# Altium schematic symbol library dungvh03-CERN_Connectors.SchLib: 576 symbols (part 3 of 8)
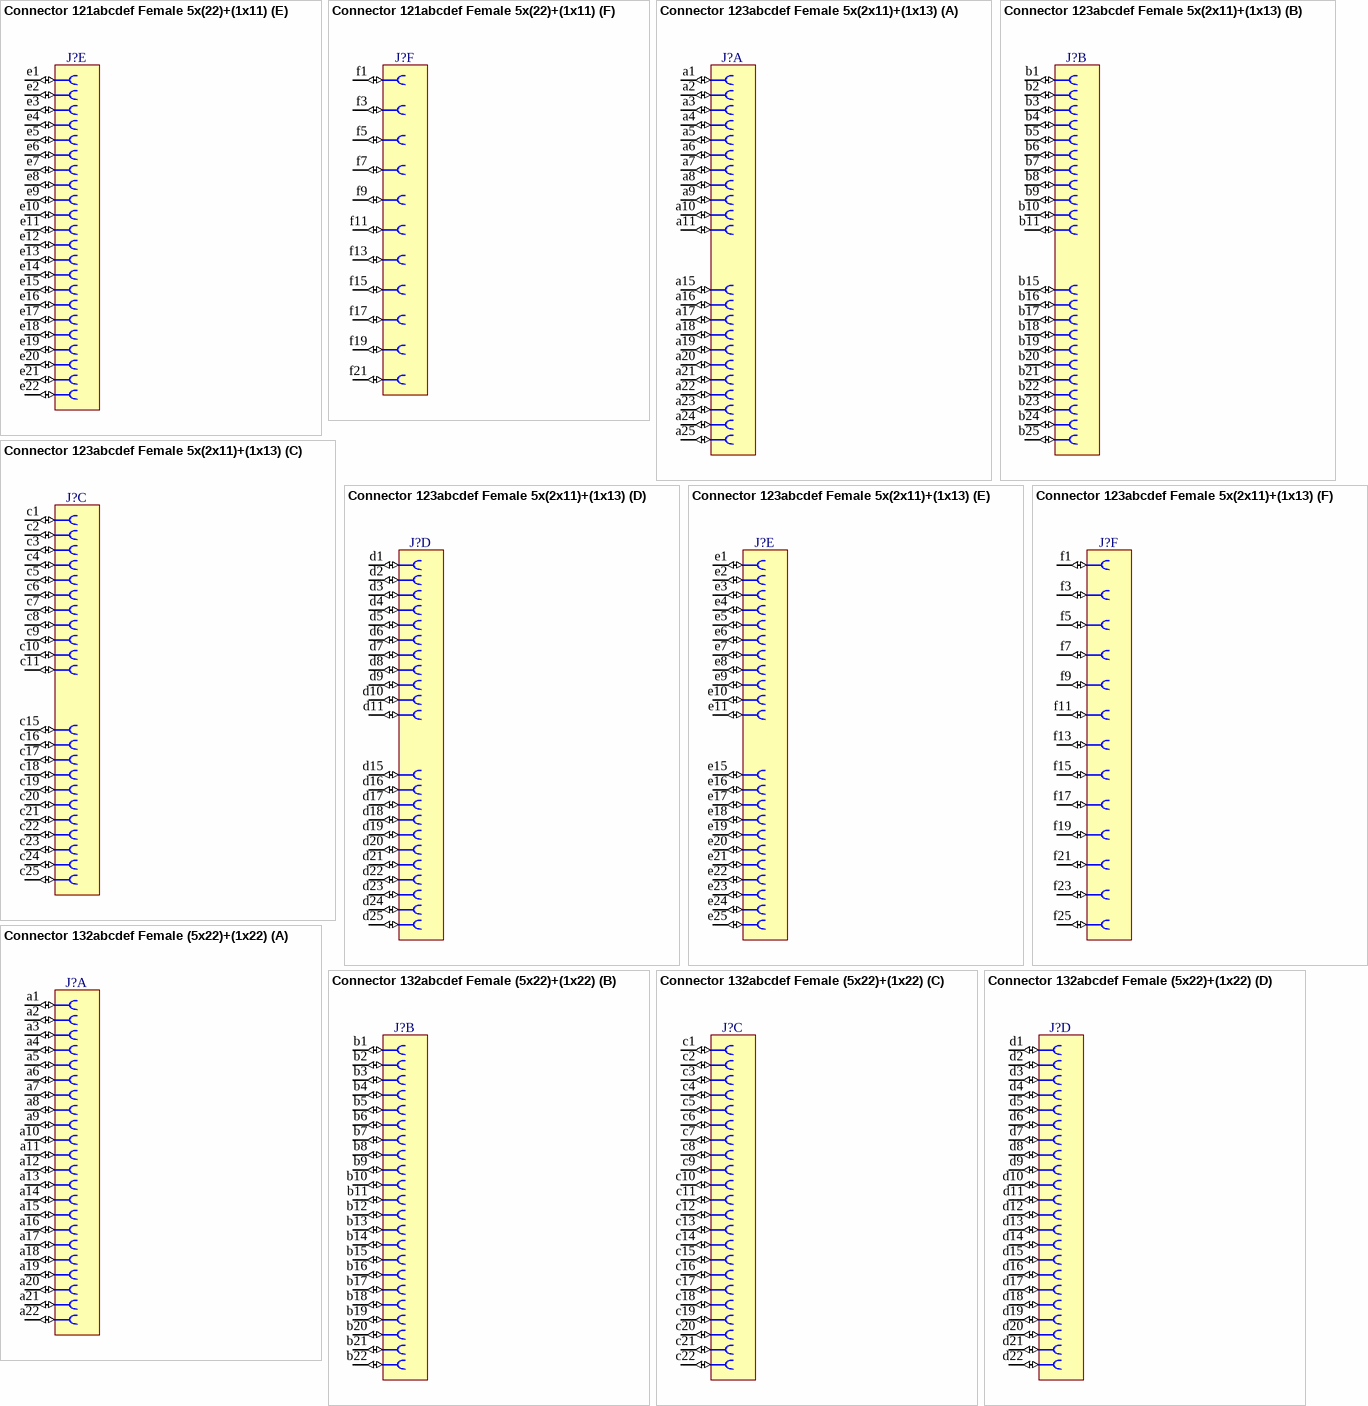
[diagram p77: symbols Connector 121abcdef Female 5x(22)+(1x11) to Connector 132abcdef Female (5x22)+(1x22)]

## Connector 121abcdef Female 5x(22)+(1x11)
designator J?
Female Connector, 121 (110+11) Contacts, 5 Rows (abcde) of 22 Contacts + 1 Row (f) of 11 Contacts
part A pins: a1 (io), a2 (io), a3 (io), a4 (io), a5 (io), a6 (io), a7 (io), a8 (io), a9 (io), a10 (io), a11 (io), a12 (io), a13 (io), a14 (io), a15 (io), a16 (io), a17 (io), a18 (io), a19 (io), a20 (io), a21 (io), a22 (io)
part B pins: b1 (io), b2 (io), b3 (io), b4 (io), b5 (io), b6 (io), b7 (io), b8 (io), b9 (io), b10 (io), b11 (io), b12 (io), b13 (io), b14 (io), b15 (io), b16 (io), b17 (io), b18 (io), b19 (io), b20 (io), b21 (io), b22 (io)
part C pins: c1 (io), c2 (io), c3 (io), c4 (io), c5 (io), c6 (io), c7 (io), c8 (io), c9 (io), c10 (io), c11 (io), c12 (io), c13 (io), c14 (io), c15 (io), c16 (io), c17 (io), c18 (io), c19 (io), c20 (io), c21 (io), c22 (io)
part D pins: d1 (io), d2 (io), d3 (io), d4 (io), d5 (io), d6 (io), d7 (io), d8 (io), d9 (io), d10 (io), d11 (io), d12 (io), d13 (io), d14 (io), d15 (io), d16 (io), d17 (io), d18 (io), d19 (io), d20 (io), d21 (io), d22 (io)
part E pins: e1 (io), e2 (io), e3 (io), e4 (io), e5 (io), e6 (io), e7 (io), e8 (io), e9 (io), e10 (io), e11 (io), e12 (io), e13 (io), e14 (io), e15 (io), e16 (io), e17 (io), e18 (io), e19 (io), e20 (io), e21 (io), e22 (io)
part F pins: f1 (io), f3 (io), f5 (io), f7 (io), f9 (io), f11 (io), f13 (io), f15 (io), f17 (io), f19 (io), f21 (io)

## Connector 123abcdef Female 5x(2x11)+(1x13)
designator J?
Female Connector, 123 (110+13) Contacts Female, 5 Rows (abcde) of 2x11 Contacts + 1 Row (f) of 13 Contacts
part A pins: a1 (io), a2 (io), a3 (io), a4 (io), a5 (io), a6 (io), a7 (io), a8 (io), a9 (io), a10 (io), a11 (io), a15 (io), a16 (io), a17 (io), a18 (io), a19 (io), a20 (io), a21 (io), a22 (io), a23 (io), a24 (io), a25 (io)
part B pins: b1 (io), b2 (io), b3 (io), b4 (io), b5 (io), b6 (io), b7 (io), b8 (io), b9 (io), b10 (io), b11 (io), b15 (io), b16 (io), b17 (io), b18 (io), b19 (io), b20 (io), b21 (io), b22 (io), b23 (io), b24 (io), b25 (io)
part C pins: c1 (io), c2 (io), c3 (io), c4 (io), c5 (io), c6 (io), c7 (io), c8 (io), c9 (io), c10 (io), c11 (io), c15 (io), c16 (io), c17 (io), c18 (io), c19 (io), c20 (io), c21 (io), c22 (io), c23 (io), c24 (io), c25 (io)
part D pins: d1 (io), d2 (io), d3 (io), d4 (io), d5 (io), d6 (io), d7 (io), d8 (io), d9 (io), d10 (io), d11 (io), d15 (io), d16 (io), d17 (io), d18 (io), d19 (io), d20 (io), d21 (io), d22 (io), d23 (io), d24 (io), d25 (io)
part E pins: e1 (io), e2 (io), e3 (io), e4 (io), e5 (io), e6 (io), e7 (io), e8 (io), e9 (io), e10 (io), e11 (io), e15 (io), e16 (io), e17 (io), e18 (io), e19 (io), e20 (io), e21 (io), e22 (io), e23 (io), e24 (io), e25 (io)
part F pins: f1 (io), f3 (io), f5 (io), f7 (io), f9 (io), f11 (io), f13 (io), f15 (io), f17 (io), f19 (io), f21 (io), f23 (io), f25 (io)

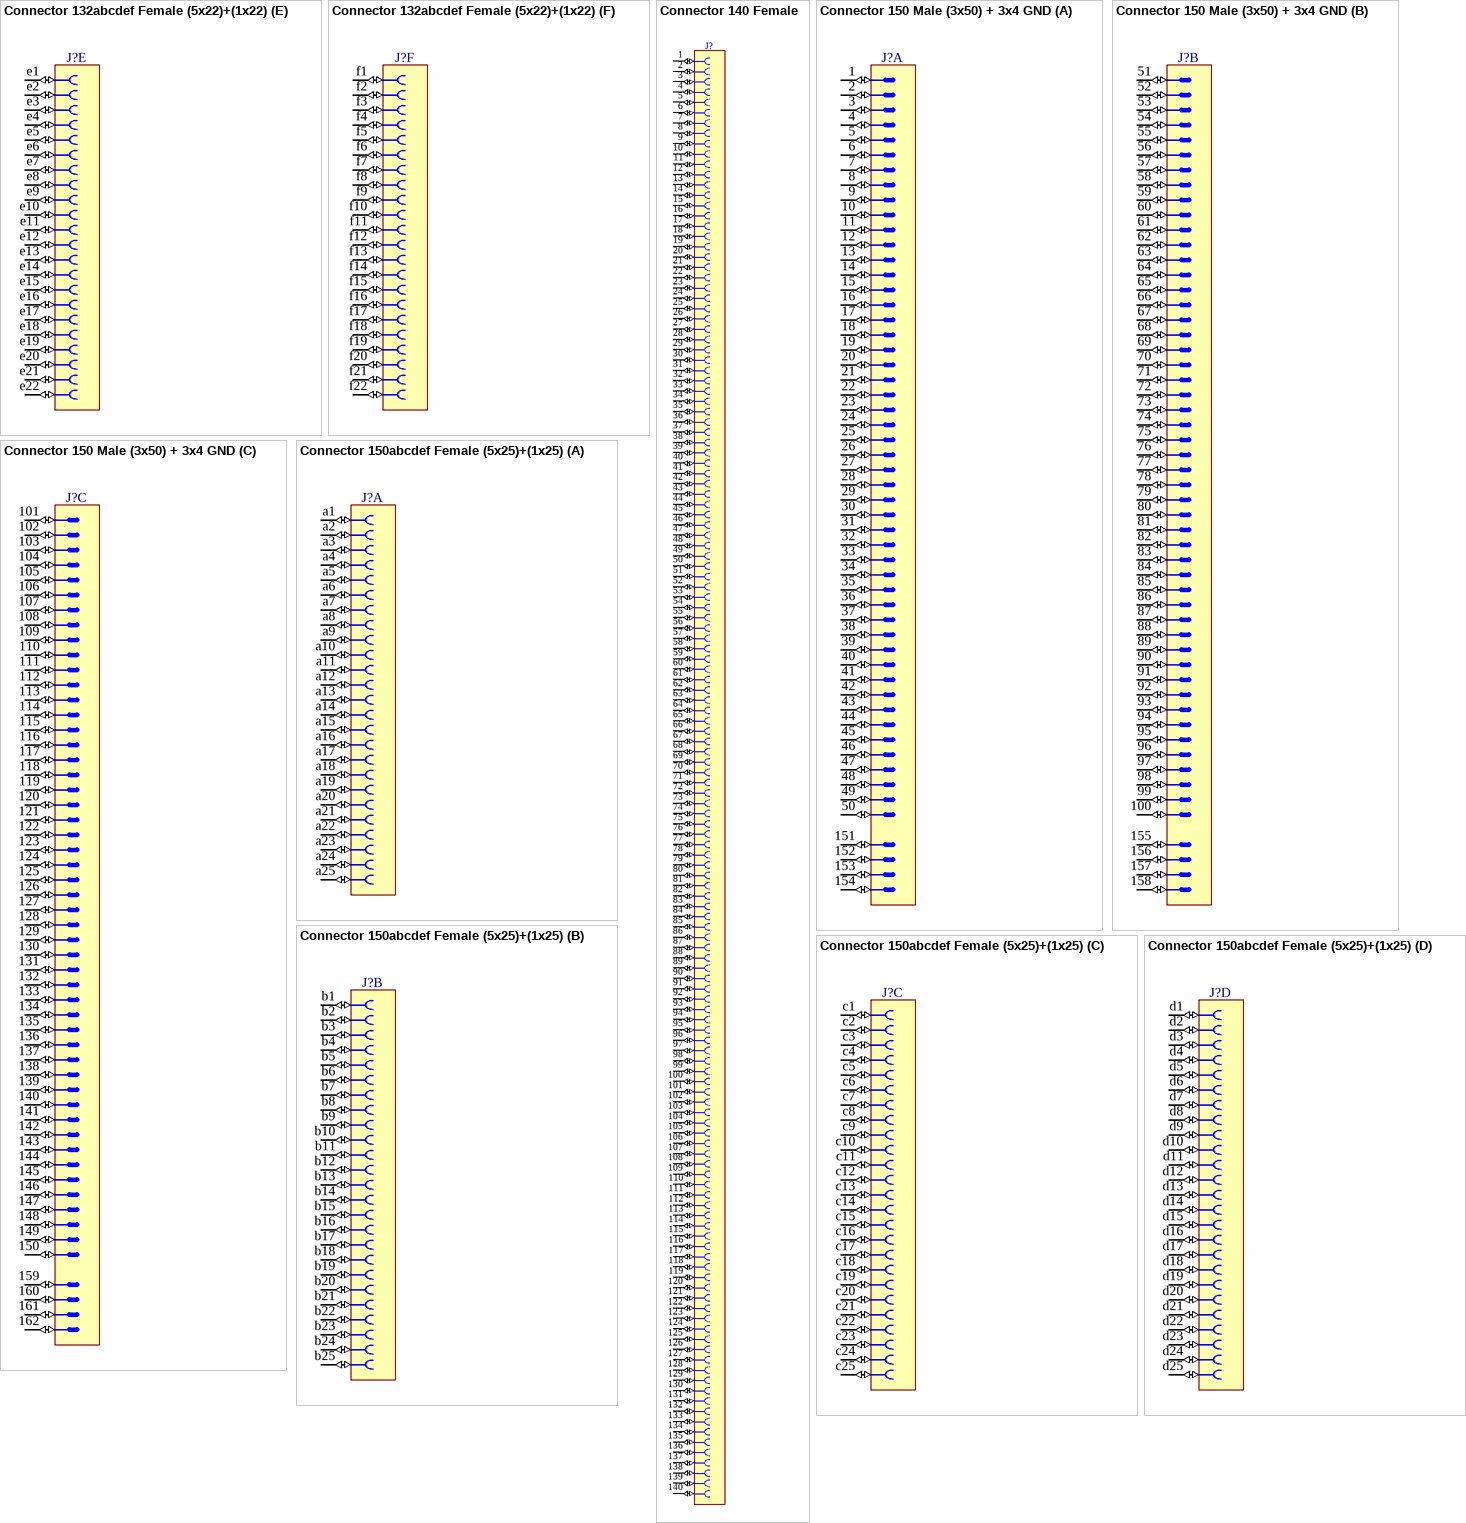
[diagram p20: symbols Connector 132abcdef Female (5x22)+(1x22) to Connector 150abcdef Female (5x25)+(1x25)]

## Connector 132abcdef Female (5x22)+(1x22)
designator J?
Female Connector, 132 (110+22) Contacts, 5 Rows (abcde) of 22 Contacts + 1 Row (f) of 22 Contacts
part A pins: a1 (io), a2 (io), a3 (io), a4 (io), a5 (io), a6 (io), a7 (io), a8 (io), a9 (io), a10 (io), a11 (io), a12 (io), a13 (io), a14 (io), a15 (io), a16 (io), a17 (io), a18 (io), a19 (io), a20 (io), a21 (io), a22 (io)
part B pins: b1 (io), b2 (io), b3 (io), b4 (io), b5 (io), b6 (io), b7 (io), b8 (io), b9 (io), b10 (io), b11 (io), b12 (io), b13 (io), b14 (io), b15 (io), b16 (io), b17 (io), b18 (io), b19 (io), b20 (io), b21 (io), b22 (io)
part C pins: c1 (io), c2 (io), c3 (io), c4 (io), c5 (io), c6 (io), c7 (io), c8 (io), c9 (io), c10 (io), c11 (io), c12 (io), c13 (io), c14 (io), c15 (io), c16 (io), c17 (io), c18 (io), c19 (io), c20 (io), c21 (io), c22 (io)
part D pins: d1 (io), d2 (io), d3 (io), d4 (io), d5 (io), d6 (io), d7 (io), d8 (io), d9 (io), d10 (io), d11 (io), d12 (io), d13 (io), d14 (io), d15 (io), d16 (io), d17 (io), d18 (io), d19 (io), d20 (io), d21 (io), d22 (io)
part E pins: e1 (io), e2 (io), e3 (io), e4 (io), e5 (io), e6 (io), e7 (io), e8 (io), e9 (io), e10 (io), e11 (io), e12 (io), e13 (io), e14 (io), e15 (io), e16 (io), e17 (io), e18 (io), e19 (io), e20 (io), e21 (io), e22 (io)
part F pins: f1 (io), f2 (io), f3 (io), f4 (io), f5 (io), f6 (io), f7 (io), f8 (io), f9 (io), f10 (io), f11 (io), f12 (io), f13 (io), f14 (io), f15 (io), f16 (io), f17 (io), f18 (io), f19 (io), f20 (io), f21 (io), f22 (io)

## Connector 140 Female
designator J?
Connector 140 Female
pins: 1 (io), 2 (io), 3 (io), 4 (io), 5 (io), 6 (io), 7 (io), 8 (io), 9 (io), 10 (io), 11 (io), 12 (io), 13 (io), 14 (io), 15 (io), 16 (io), 17 (io), 18 (io), 19 (io), 20 (io), 21 (io), 22 (io), 23 (io), 24 (io), 25 (io), 26 (io), 27 (io), 28 (io), 29 (io), 30 (io), 31 (io), 32 (io), 33 (io), 34 (io), 35 (io), 36 (io), 37 (io), 38 (io), 39 (io), 40 (io), 41 (io), 42 (io), 43 (io), 44 (io), 45 (io), 46 (io), 47 (io), 48 (io), 49 (io), 50 (io), 51 (io), 52 (io), 53 (io), 54 (io), 55 (io), 56 (io), 57 (io), 58 (io), 59 (io), 60 (io), 61 (io), 62 (io), 63 (io), 64 (io), 65 (io), 66 (io), 67 (io), 68 (io), 69 (io), 70 (io), 71 (io), 72 (io), 73 (io), 74 (io), 75 (io), 76 (io), 77 (io), 78 (io), 79 (io), 80 (io), 81 (io), 82 (io), 83 (io), 84 (io), 85 (io), 86 (io), 87 (io), 88 (io), 89 (io), 90 (io), 91 (io), 92 (io), 93 (io), 94 (io), 95 (io), 96 (io), 97 (io), 98 (io), 99 (io), 100 (io), 101 (io), 102 (io), 103 (io), 104 (io), 105 (io), 106 (io), 107 (io), 108 (io), 109 (io), 110 (io), 111 (io), 112 (io), 113 (io), 114 (io), 115 (io), 116 (io), 117 (io), 118 (io), 119 (io), 120 (io), 121 (io), 122 (io), 123 (io), 124 (io), 125 (io), 126 (io), 127 (io), 128 (io), 129 (io), 130 (io), 131 (io), 132 (io), 133 (io), 134 (io), 135 (io), 136 (io), 137 (io), 138 (io), 139 (io), 140 (io)
1 alternate drawing of the same symbol

## Connector 150 Male (3x50) + 3x4 GND
designator J?
Connector 150 Male (3x50) + 3x4 GND
part A pins: 1 (io), 2 (io), 3 (io), 4 (io), 5 (io), 6 (io), 7 (io), 8 (io), 9 (io), 10 (io), 11 (io), 12 (io), 13 (io), 14 (io), 15 (io), 16 (io), 17 (io), 18 (io), 19 (io), 20 (io), 21 (io), 22 (io), 23 (io), 24 (io), 25 (io), 26 (io), 27 (io), 28 (io), 29 (io), 30 (io), 31 (io), 32 (io), 33 (io), 34 (io), 35 (io), 36 (io), 37 (io), 38 (io), 39 (io), 40 (io), 41 (io), 42 (io), 43 (io), 44 (io), 45 (io), 46 (io), 47 (io), 48 (io), 49 (io), 50 (io), 151 (io), 152 (io), 153 (io), 154 (io)
part B pins: 51 (io), 52 (io), 53 (io), 54 (io), 55 (io), 56 (io), 57 (io), 58 (io), 59 (io), 60 (io), 61 (io), 62 (io), 63 (io), 64 (io), 65 (io), 66 (io), 67 (io), 68 (io), 69 (io), 70 (io), 71 (io), 72 (io), 73 (io), 74 (io), 75 (io), 76 (io), 77 (io), 78 (io), 79 (io), 80 (io), 81 (io), 82 (io), 83 (io), 84 (io), 85 (io), 86 (io), 87 (io), 88 (io), 89 (io), 90 (io), 91 (io), 92 (io), 93 (io), 94 (io), 95 (io), 96 (io), 97 (io), 98 (io), 99 (io), 100 (io), 155 (io), 156 (io), 157 (io), 158 (io)
part C pins: 101 (io), 102 (io), 103 (io), 104 (io), 105 (io), 106 (io), 107 (io), 108 (io), 109 (io), 110 (io), 111 (io), 112 (io), 113 (io), 114 (io), 115 (io), 116 (io), 117 (io), 118 (io), 119 (io), 120 (io), 121 (io), 122 (io), 123 (io), 124 (io), 125 (io), 126 (io), 127 (io), 128 (io), 129 (io), 130 (io), 131 (io), 132 (io), 133 (io), 134 (io), 135 (io), 136 (io), 137 (io), 138 (io), 139 (io), 140 (io), 141 (io), 142 (io), 143 (io), 144 (io), 145 (io), 146 (io), 147 (io), 148 (io), 149 (io), 150 (io), 159 (io), 160 (io), 161 (io), 162 (io)

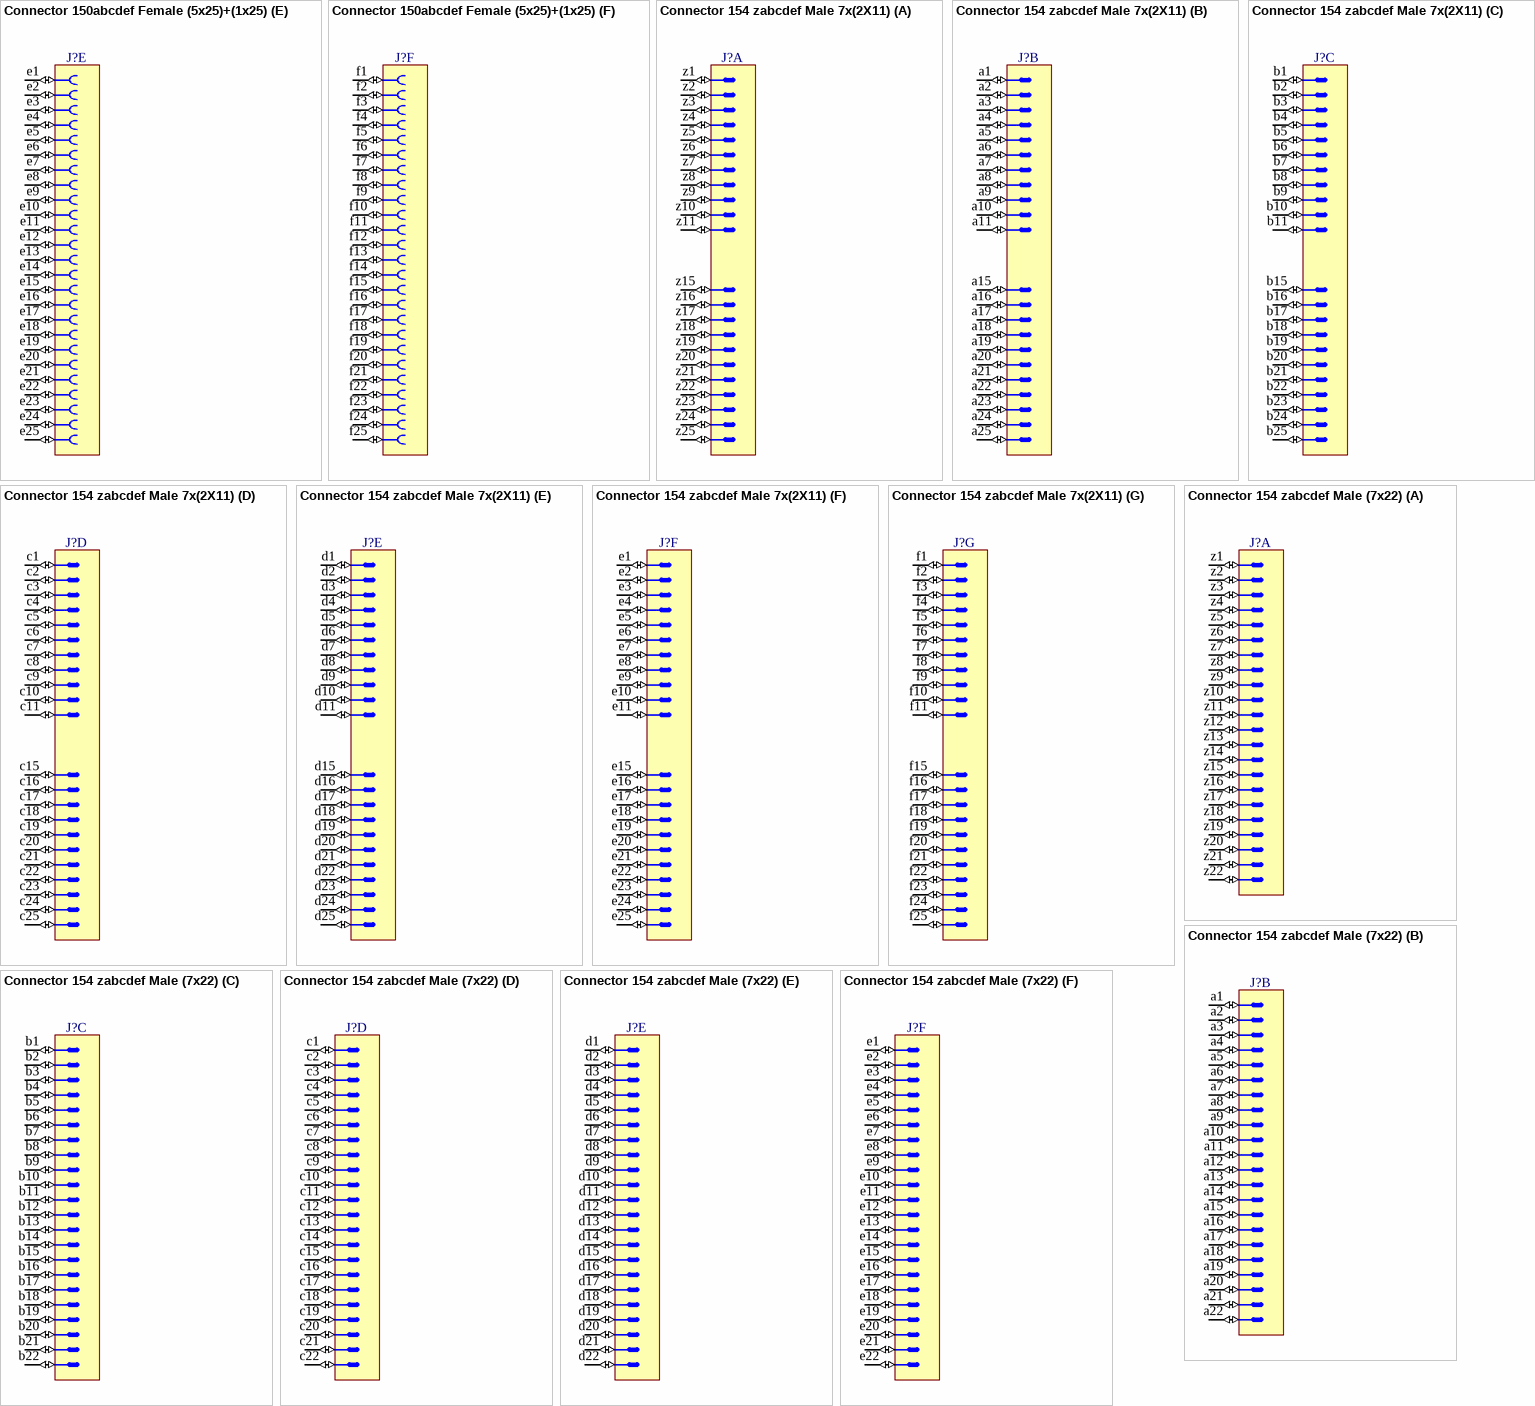
[diagram p21: symbols Connector 150abcdef Female (5x25)+(1x25) to Connector 154 zabcdef Male (7x22)]

## Connector 150abcdef Female (5x25)+(1x25)
designator J?
Connector 150abcdef Female (5x25)+(1x25)
part A pins: a1 (io), a2 (io), a3 (io), a4 (io), a5 (io), a6 (io), a7 (io), a8 (io), a9 (io), a10 (io), a11 (io), a12 (io), a13 (io), a14 (io), a15 (io), a16 (io), a17 (io), a18 (io), a19 (io), a20 (io), a21 (io), a22 (io), a23 (io), a24 (io), a25 (io)
part B pins: b1 (io), b2 (io), b3 (io), b4 (io), b5 (io), b6 (io), b7 (io), b8 (io), b9 (io), b10 (io), b11 (io), b12 (io), b13 (io), b14 (io), b15 (io), b16 (io), b17 (io), b18 (io), b19 (io), b20 (io), b21 (io), b22 (io), b23 (io), b24 (io), b25 (io)
part C pins: c1 (io), c2 (io), c3 (io), c4 (io), c5 (io), c6 (io), c7 (io), c8 (io), c9 (io), c10 (io), c11 (io), c12 (io), c13 (io), c14 (io), c15 (io), c16 (io), c17 (io), c18 (io), c19 (io), c20 (io), c21 (io), c22 (io), c23 (io), c24 (io), c25 (io)
part D pins: d1 (io), d2 (io), d3 (io), d4 (io), d5 (io), d6 (io), d7 (io), d8 (io), d9 (io), d10 (io), d11 (io), d12 (io), d13 (io), d14 (io), d15 (io), d16 (io), d17 (io), d18 (io), d19 (io), d20 (io), d21 (io), d22 (io), d23 (io), d24 (io), d25 (io)
part E pins: e1 (io), e2 (io), e3 (io), e4 (io), e5 (io), e6 (io), e7 (io), e8 (io), e9 (io), e10 (io), e11 (io), e12 (io), e13 (io), e14 (io), e15 (io), e16 (io), e17 (io), e18 (io), e19 (io), e20 (io), e21 (io), e22 (io), e23 (io), e24 (io), e25 (io)
part F pins: f1 (io), f2 (io), f3 (io), f4 (io), f5 (io), f6 (io), f7 (io), f8 (io), f9 (io), f10 (io), f11 (io), f12 (io), f13 (io), f14 (io), f15 (io), f16 (io), f17 (io), f18 (io), f19 (io), f20 (io), f21 (io), f22 (io), f23 (io), f24 (io), f25 (io)

## Connector 154 zabcdef Male 7x(2X11)
designator J?
Male Connector, 154 (110+44) Contacts 5 Rows (abcde) in 2x11 Contacrs + 2 Row (zf) in 2X11 Contacts
part A pins: z1 (io), z2 (io), z3 (io), z4 (io), z5 (io), z6 (io), z7 (io), z8 (io), z9 (io), z10 (io), z11 (io), z15 (io), z16 (io), z17 (io), z18 (io), z19 (io), z20 (io), z21 (io), z22 (io), z23 (io), z24 (io), z25 (io)
part B pins: a1 (io), a2 (io), a3 (io), a4 (io), a5 (io), a6 (io), a7 (io), a8 (io), a9 (io), a10 (io), a11 (io), a15 (io), a16 (io), a17 (io), a18 (io), a19 (io), a20 (io), a21 (io), a22 (io), a23 (io), a24 (io), a25 (io)
part C pins: b1 (io), b2 (io), b3 (io), b4 (io), b5 (io), b6 (io), b7 (io), b8 (io), b9 (io), b10 (io), b11 (io), b15 (io), b16 (io), b17 (io), b18 (io), b19 (io), b20 (io), b21 (io), b22 (io), b23 (io), b24 (io), b25 (io)
part D pins: c1 (io), c2 (io), c3 (io), c4 (io), c5 (io), c6 (io), c7 (io), c8 (io), c9 (io), c10 (io), c11 (io), c15 (io), c16 (io), c17 (io), c18 (io), c19 (io), c20 (io), c21 (io), c22 (io), c23 (io), c24 (io), c25 (io)
part E pins: d1 (io), d2 (io), d3 (io), d4 (io), d5 (io), d6 (io), d7 (io), d8 (io), d9 (io), d10 (io), d11 (io), d15 (io), d16 (io), d17 (io), d18 (io), d19 (io), d20 (io), d21 (io), d22 (io), d23 (io), d24 (io), d25 (io)
part F pins: e1 (io), e2 (io), e3 (io), e4 (io), e5 (io), e6 (io), e7 (io), e8 (io), e9 (io), e10 (io), e11 (io), e15 (io), e16 (io), e17 (io), e18 (io), e19 (io), e20 (io), e21 (io), e22 (io), e23 (io), e24 (io), e25 (io)
part G pins: f1 (io), f2 (io), f3 (io), f4 (io), f5 (io), f6 (io), f7 (io), f8 (io), f9 (io), f10 (io), f11 (io), f15 (io), f16 (io), f17 (io), f18 (io), f19 (io), f20 (io), f21 (io), f22 (io), f23 (io), f24 (io), f25 (io)

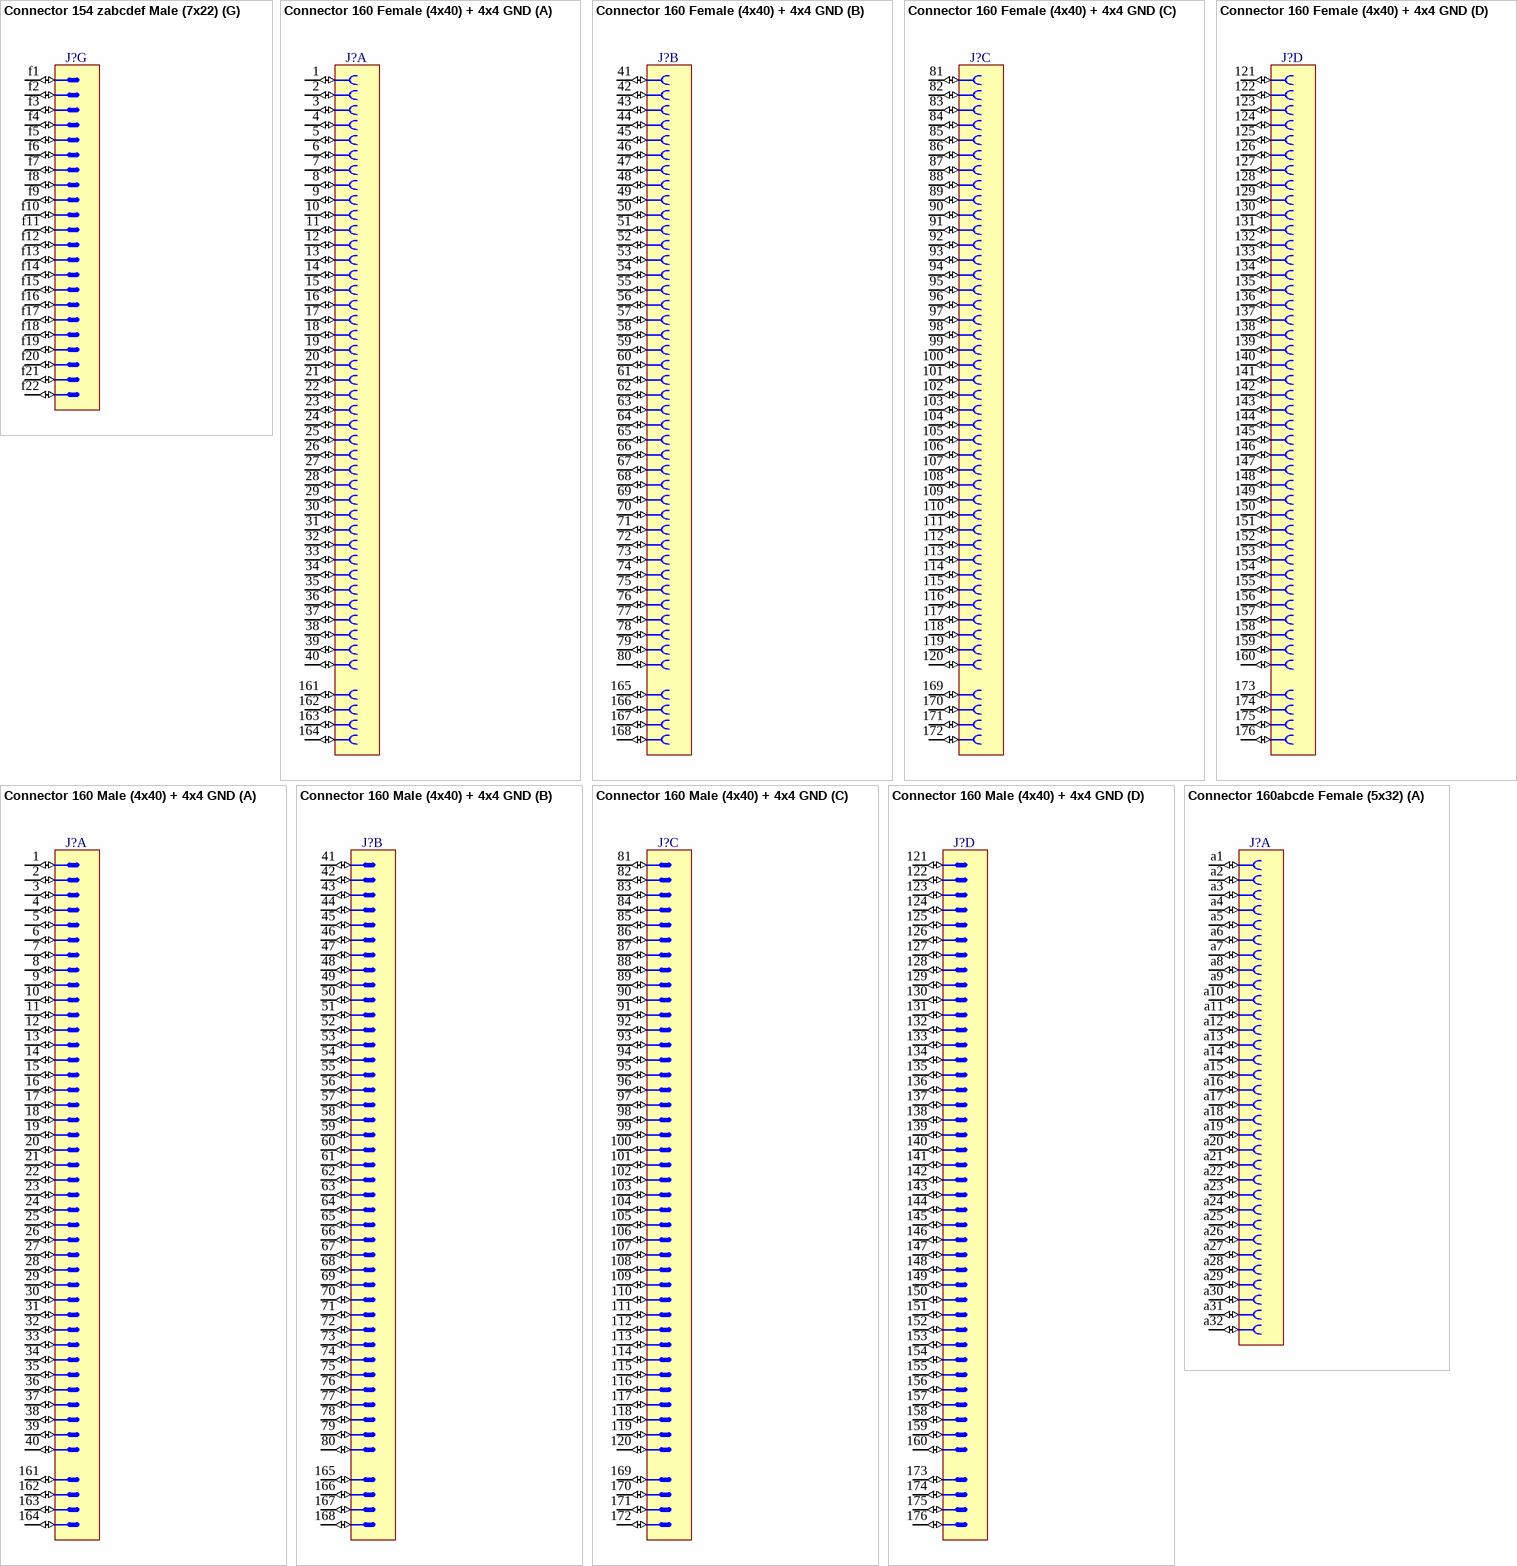
[diagram p22: symbols Connector 154 zabcdef Male (7x22) to Connector 160abcde Female (5x32)]

## Connector 154 zabcdef Male (7x22)
designator J?
Male Connector, 154 (110+44) Contacts, 5 Row (abcde) of 22 Contacts + 2 Row (zf) of 22 Contacts
part A pins: z1 (io), z2 (io), z3 (io), z4 (io), z5 (io), z6 (io), z7 (io), z8 (io), z9 (io), z10 (io), z11 (io), z12 (io), z13 (io), z14 (io), z15 (io), z16 (io), z17 (io), z18 (io), z19 (io), z20 (io), z21 (io), z22 (io)
part B pins: a1 (io), a2 (io), a3 (io), a4 (io), a5 (io), a6 (io), a7 (io), a8 (io), a9 (io), a10 (io), a11 (io), a12 (io), a13 (io), a14 (io), a15 (io), a16 (io), a17 (io), a18 (io), a19 (io), a20 (io), a21 (io), a22 (io)
part C pins: b1 (io), b2 (io), b3 (io), b4 (io), b5 (io), b6 (io), b7 (io), b8 (io), b9 (io), b10 (io), b11 (io), b12 (io), b13 (io), b14 (io), b15 (io), b16 (io), b17 (io), b18 (io), b19 (io), b20 (io), b21 (io), b22 (io)
part D pins: c1 (io), c2 (io), c3 (io), c4 (io), c5 (io), c6 (io), c7 (io), c8 (io), c9 (io), c10 (io), c11 (io), c12 (io), c13 (io), c14 (io), c15 (io), c16 (io), c17 (io), c18 (io), c19 (io), c20 (io), c21 (io), c22 (io)
part E pins: d1 (io), d2 (io), d3 (io), d4 (io), d5 (io), d6 (io), d7 (io), d8 (io), d9 (io), d10 (io), d11 (io), d12 (io), d13 (io), d14 (io), d15 (io), d16 (io), d17 (io), d18 (io), d19 (io), d20 (io), d21 (io), d22 (io)
part F pins: e1 (io), e2 (io), e3 (io), e4 (io), e5 (io), e6 (io), e7 (io), e8 (io), e9 (io), e10 (io), e11 (io), e12 (io), e13 (io), e14 (io), e15 (io), e16 (io), e17 (io), e18 (io), e19 (io), e20 (io), e21 (io), e22 (io)
part G pins: f1 (io), f2 (io), f3 (io), f4 (io), f5 (io), f6 (io), f7 (io), f8 (io), f9 (io), f10 (io), f11 (io), f12 (io), f13 (io), f14 (io), f15 (io), f16 (io), f17 (io), f18 (io), f19 (io), f20 (io), f21 (io), f22 (io)

## Connector 160 Female (4x40) + 4x4 GND
designator J?
Connector 160 Female (4x40) + 4x4 GND
part A pins: 1 (io), 2 (io), 3 (io), 4 (io), 5 (io), 6 (io), 7 (io), 8 (io), 9 (io), 10 (io), 11 (io), 12 (io), 13 (io), 14 (io), 15 (io), 16 (io), 17 (io), 18 (io), 19 (io), 20 (io), 21 (io), 22 (io), 23 (io), 24 (io), 25 (io), 26 (io), 27 (io), 28 (io), 29 (io), 30 (io), 31 (io), 32 (io), 33 (io), 34 (io), 35 (io), 36 (io), 37 (io), 38 (io), 39 (io), 40 (io), 161 (io), 162 (io), 163 (io), 164 (io)
part B pins: 41 (io), 42 (io), 43 (io), 44 (io), 45 (io), 46 (io), 47 (io), 48 (io), 49 (io), 50 (io), 51 (io), 52 (io), 53 (io), 54 (io), 55 (io), 56 (io), 57 (io), 58 (io), 59 (io), 60 (io), 61 (io), 62 (io), 63 (io), 64 (io), 65 (io), 66 (io), 67 (io), 68 (io), 69 (io), 70 (io), 71 (io), 72 (io), 73 (io), 74 (io), 75 (io), 76 (io), 77 (io), 78 (io), 79 (io), 80 (io), 165 (io), 166 (io), 167 (io), 168 (io)
part C pins: 81 (io), 82 (io), 83 (io), 84 (io), 85 (io), 86 (io), 87 (io), 88 (io), 89 (io), 90 (io), 91 (io), 92 (io), 93 (io), 94 (io), 95 (io), 96 (io), 97 (io), 98 (io), 99 (io), 100 (io), 101 (io), 102 (io), 103 (io), 104 (io), 105 (io), 106 (io), 107 (io), 108 (io), 109 (io), 110 (io), 111 (io), 112 (io), 113 (io), 114 (io), 115 (io), 116 (io), 117 (io), 118 (io), 119 (io), 120 (io), 169 (io), 170 (io), 171 (io), 172 (io)
part D pins: 121 (io), 122 (io), 123 (io), 124 (io), 125 (io), 126 (io), 127 (io), 128 (io), 129 (io), 130 (io), 131 (io), 132 (io), 133 (io), 134 (io), 135 (io), 136 (io), 137 (io), 138 (io), 139 (io), 140 (io), 141 (io), 142 (io), 143 (io), 144 (io), 145 (io), 146 (io), 147 (io), 148 (io), 149 (io), 150 (io), 151 (io), 152 (io), 153 (io), 154 (io), 155 (io), 156 (io), 157 (io), 158 (io), 159 (io), 160 (io), 173 (io), 174 (io), 175 (io), 176 (io)

## Connector 160 Male (4x40) + 4x4 GND
designator J?
Connector 160 Male (4x40) + 4x4 GND
part A pins: 1 (io), 2 (io), 3 (io), 4 (io), 5 (io), 6 (io), 7 (io), 8 (io), 9 (io), 10 (io), 11 (io), 12 (io), 13 (io), 14 (io), 15 (io), 16 (io), 17 (io), 18 (io), 19 (io), 20 (io), 21 (io), 22 (io), 23 (io), 24 (io), 25 (io), 26 (io), 27 (io), 28 (io), 29 (io), 30 (io), 31 (io), 32 (io), 33 (io), 34 (io), 35 (io), 36 (io), 37 (io), 38 (io), 39 (io), 40 (io), 161 (io), 162 (io), 163 (io), 164 (io)
part B pins: 41 (io), 42 (io), 43 (io), 44 (io), 45 (io), 46 (io), 47 (io), 48 (io), 49 (io), 50 (io), 51 (io), 52 (io), 53 (io), 54 (io), 55 (io), 56 (io), 57 (io), 58 (io), 59 (io), 60 (io), 61 (io), 62 (io), 63 (io), 64 (io), 65 (io), 66 (io), 67 (io), 68 (io), 69 (io), 70 (io), 71 (io), 72 (io), 73 (io), 74 (io), 75 (io), 76 (io), 77 (io), 78 (io), 79 (io), 80 (io), 165 (io), 166 (io), 167 (io), 168 (io)
part C pins: 81 (io), 82 (io), 83 (io), 84 (io), 85 (io), 86 (io), 87 (io), 88 (io), 89 (io), 90 (io), 91 (io), 92 (io), 93 (io), 94 (io), 95 (io), 96 (io), 97 (io), 98 (io), 99 (io), 100 (io), 101 (io), 102 (io), 103 (io), 104 (io), 105 (io), 106 (io), 107 (io), 108 (io), 109 (io), 110 (io), 111 (io), 112 (io), 113 (io), 114 (io), 115 (io), 116 (io), 117 (io), 118 (io), 119 (io), 120 (io), 169 (io), 170 (io), 171 (io), 172 (io)
part D pins: 121 (io), 122 (io), 123 (io), 124 (io), 125 (io), 126 (io), 127 (io), 128 (io), 129 (io), 130 (io), 131 (io), 132 (io), 133 (io), 134 (io), 135 (io), 136 (io), 137 (io), 138 (io), 139 (io), 140 (io), 141 (io), 142 (io), 143 (io), 144 (io), 145 (io), 146 (io), 147 (io), 148 (io), 149 (io), 150 (io), 151 (io), 152 (io), 153 (io), 154 (io), 155 (io), 156 (io), 157 (io), 158 (io), 159 (io), 160 (io), 173 (io), 174 (io), 175 (io), 176 (io)

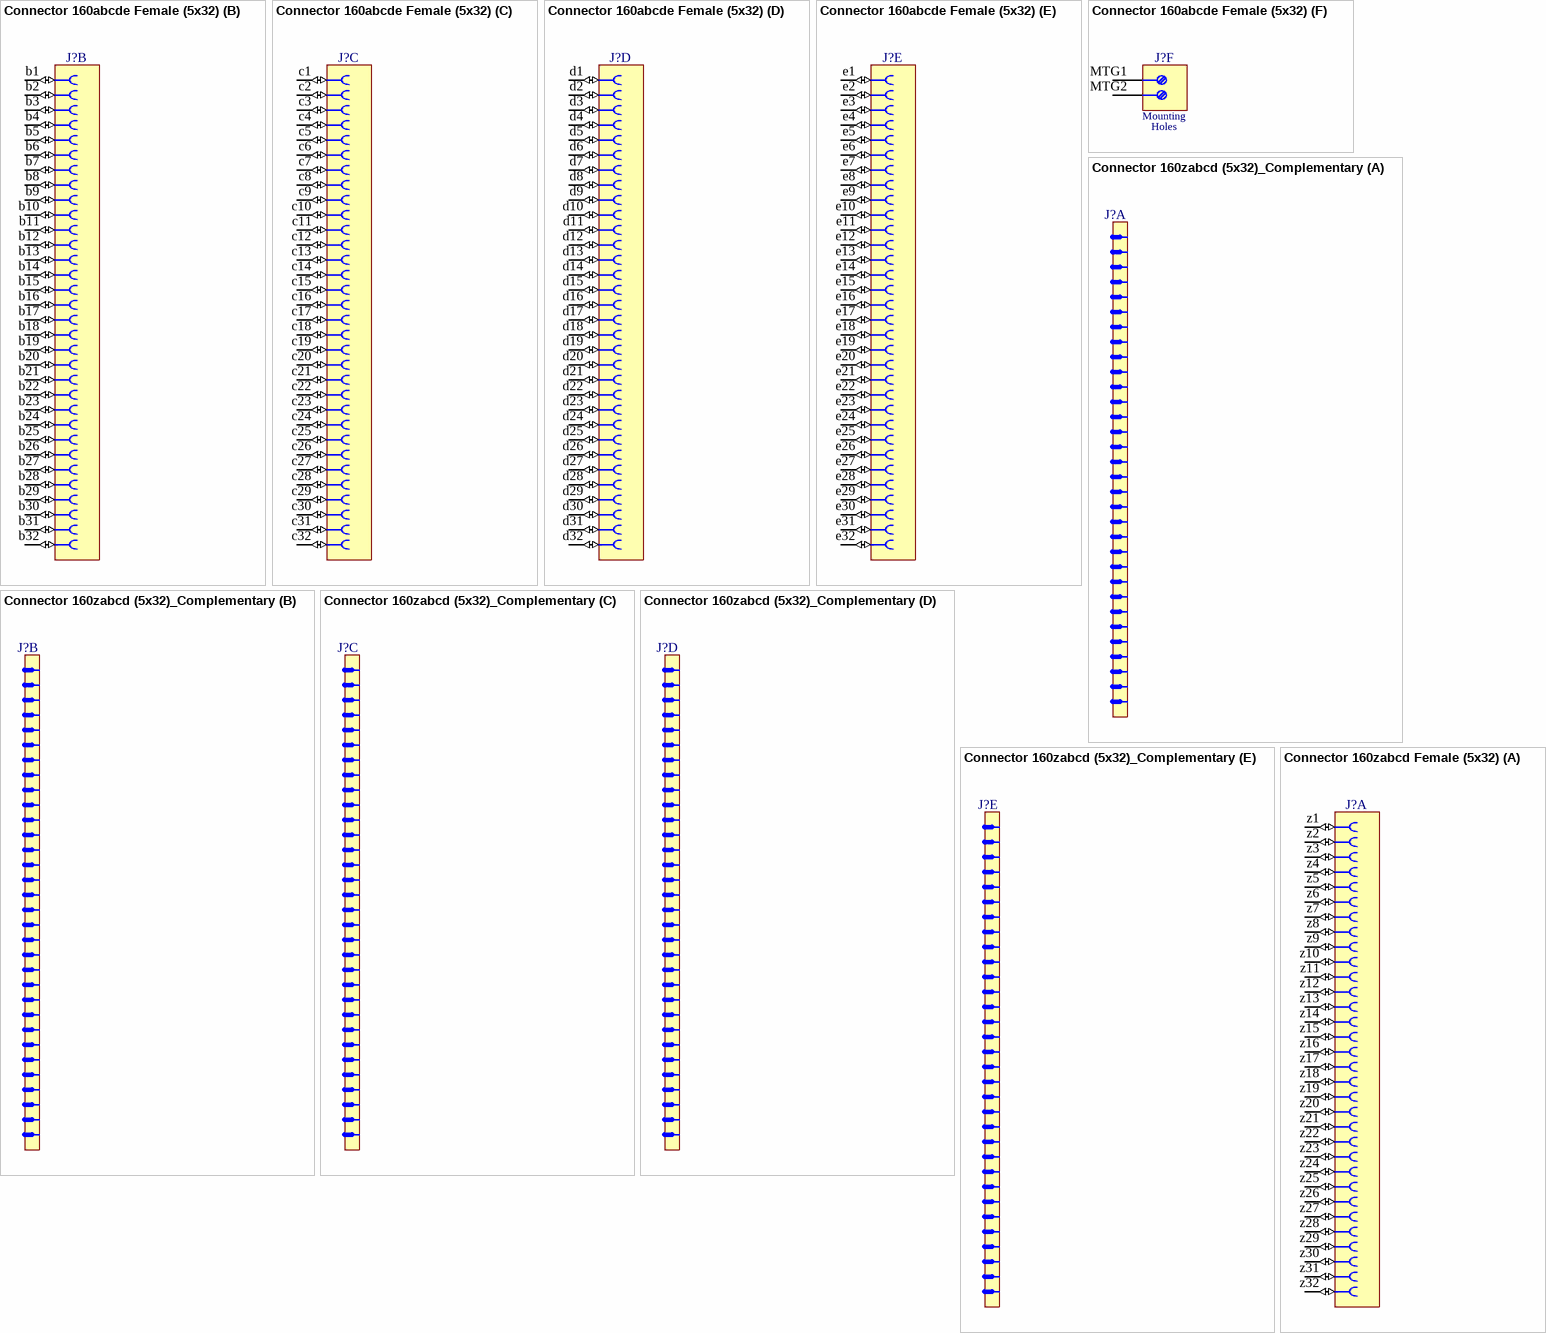
[diagram p23: symbols Connector 160abcde Female (5x32) to Connector 160zabcd Female (5x32)]

## Connector 160abcde Female (5x32)
designator J?
Connector 160abcde Female (5x32)
part A pins: a1 (io), a2 (io), a3 (io), a4 (io), a5 (io), a6 (io), a7 (io), a8 (io), a9 (io), a10 (io), a11 (io), a12 (io), a13 (io), a14 (io), a15 (io), a16 (io), a17 (io), a18 (io), a19 (io), a20 (io), a21 (io), a22 (io), a23 (io), a24 (io), a25 (io), a26 (io), a27 (io), a28 (io), a29 (io), a30 (io), a31 (io), a32 (io)
part B pins: b1 (io), b2 (io), b3 (io), b4 (io), b5 (io), b6 (io), b7 (io), b8 (io), b9 (io), b10 (io), b11 (io), b12 (io), b13 (io), b14 (io), b15 (io), b16 (io), b17 (io), b18 (io), b19 (io), b20 (io), b21 (io), b22 (io), b23 (io), b24 (io), b25 (io), b26 (io), b27 (io), b28 (io), b29 (io), b30 (io), b31 (io), b32 (io)
part C pins: c1 (io), c2 (io), c3 (io), c4 (io), c5 (io), c6 (io), c7 (io), c8 (io), c9 (io), c10 (io), c11 (io), c12 (io), c13 (io), c14 (io), c15 (io), c16 (io), c17 (io), c18 (io), c19 (io), c20 (io), c21 (io), c22 (io), c23 (io), c24 (io), c25 (io), c26 (io), c27 (io), c28 (io), c29 (io), c30 (io), c31 (io), c32 (io)
part D pins: d1 (io), d2 (io), d3 (io), d4 (io), d5 (io), d6 (io), d7 (io), d8 (io), d9 (io), d10 (io), d11 (io), d12 (io), d13 (io), d14 (io), d15 (io), d16 (io), d17 (io), d18 (io), d19 (io), d20 (io), d21 (io), d22 (io), d23 (io), d24 (io), d25 (io), d26 (io), d27 (io), d28 (io), d29 (io), d30 (io), d31 (io), d32 (io)
part E pins: e1 (io), e2 (io), e3 (io), e4 (io), e5 (io), e6 (io), e7 (io), e8 (io), e9 (io), e10 (io), e11 (io), e12 (io), e13 (io), e14 (io), e15 (io), e16 (io), e17 (io), e18 (io), e19 (io), e20 (io), e21 (io), e22 (io), e23 (io), e24 (io), e25 (io), e26 (io), e27 (io), e28 (io), e29 (io), e30 (io), e31 (io), e32 (io)
part F pins: MTG1 "Mounting Fixture", MTG2 "Mounting Fixture"
part F text: Mounting; Holes

## Connector 160zabcd (5x32)_Complementary
designator J?
Complementary Connector 160zabcd Male (5x32)

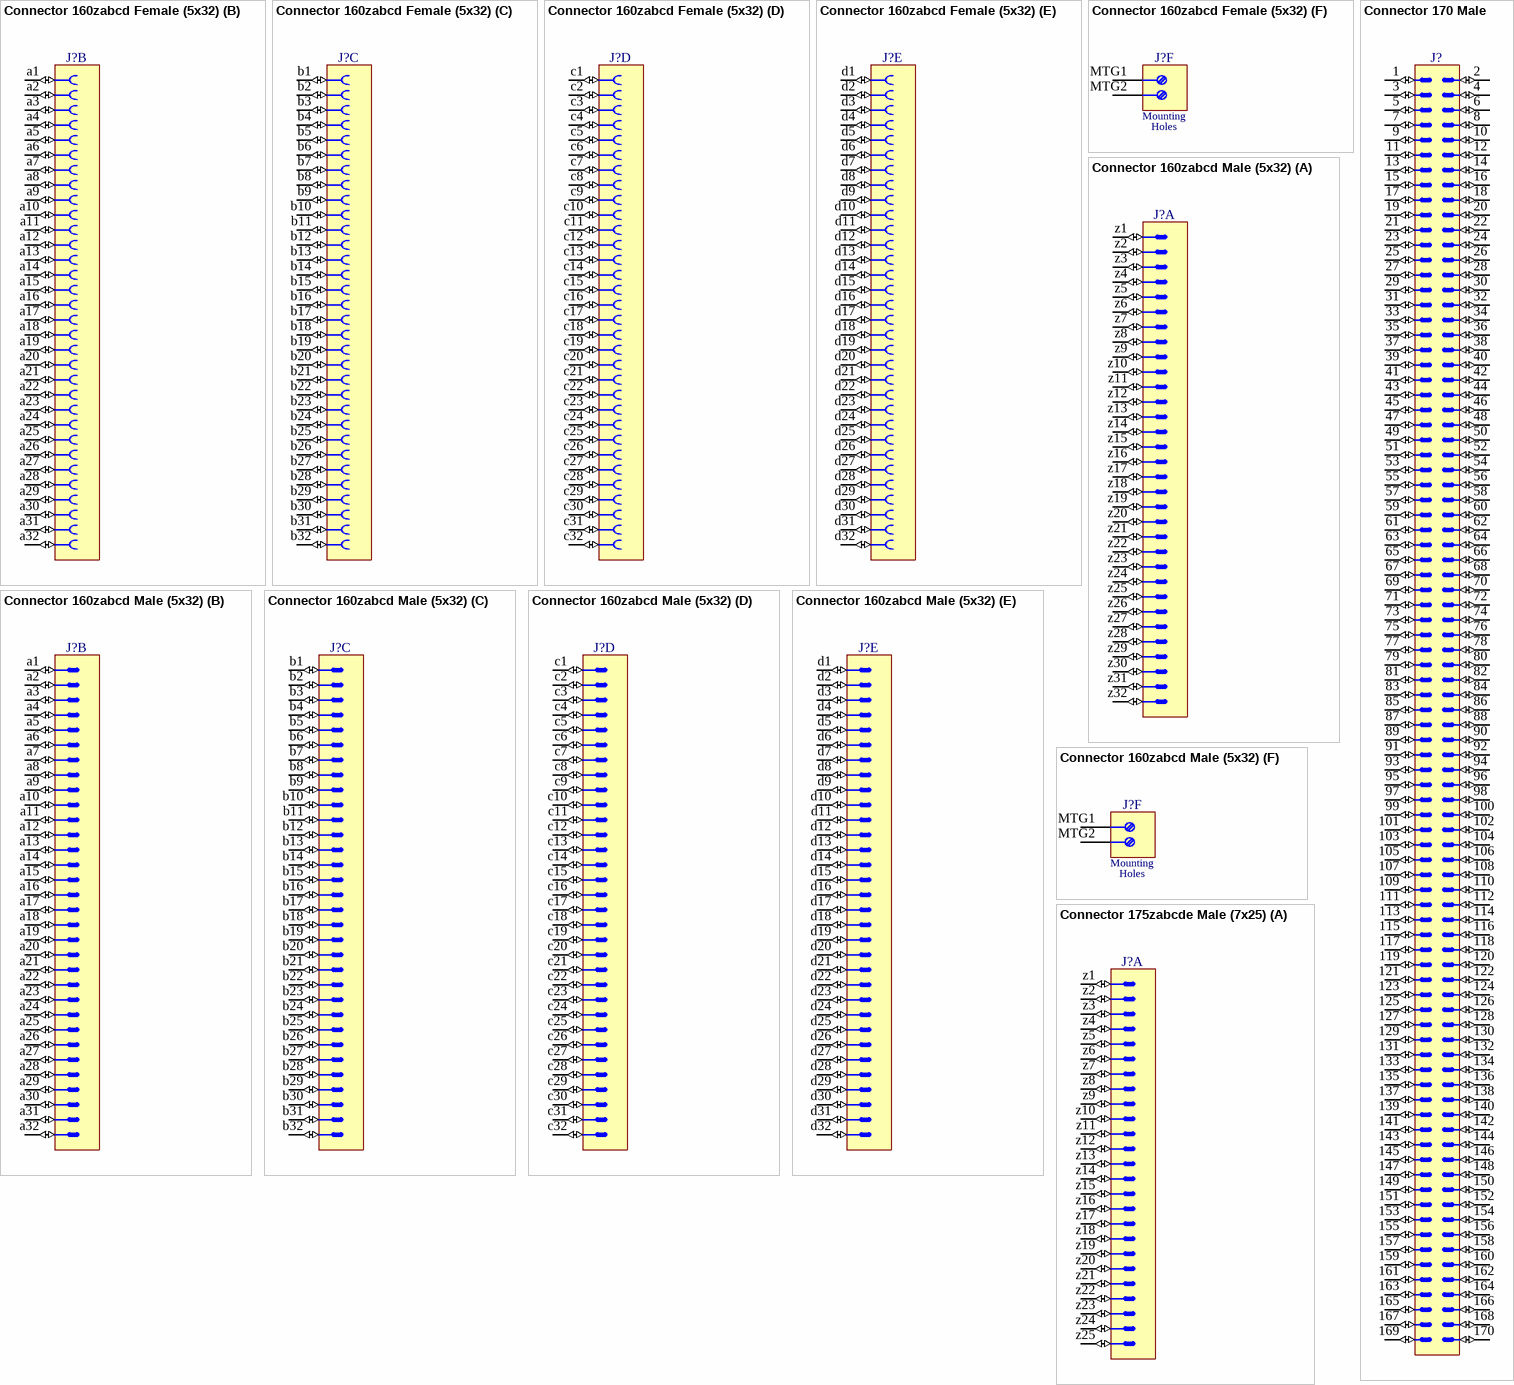
[diagram p24: symbols Connector 160zabcd Female (5x32) to Connector 175zabcde Male (7x25)]

## Connector 160zabcd Female (5x32)
designator J?
Connector 160zabcd Female (5x32)
part A pins: z1 (io), z2 (io), z3 (io), z4 (io), z5 (io), z6 (io), z7 (io), z8 (io), z9 (io), z10 (io), z11 (io), z12 (io), z13 (io), z14 (io), z15 (io), z16 (io), z17 (io), z18 (io), z19 (io), z20 (io), z21 (io), z22 (io), z23 (io), z24 (io), z25 (io), z26 (io), z27 (io), z28 (io), z29 (io), z30 (io), z31 (io), z32 (io)
part B pins: a1 (io), a2 (io), a3 (io), a4 (io), a5 (io), a6 (io), a7 (io), a8 (io), a9 (io), a10 (io), a11 (io), a12 (io), a13 (io), a14 (io), a15 (io), a16 (io), a17 (io), a18 (io), a19 (io), a20 (io), a21 (io), a22 (io), a23 (io), a24 (io), a25 (io), a26 (io), a27 (io), a28 (io), a29 (io), a30 (io), a31 (io), a32 (io)
part C pins: b1 (io), b2 (io), b3 (io), b4 (io), b5 (io), b6 (io), b7 (io), b8 (io), b9 (io), b10 (io), b11 (io), b12 (io), b13 (io), b14 (io), b15 (io), b16 (io), b17 (io), b18 (io), b19 (io), b20 (io), b21 (io), b22 (io), b23 (io), b24 (io), b25 (io), b26 (io), b27 (io), b28 (io), b29 (io), b30 (io), b31 (io), b32 (io)
part D pins: c1 (io), c2 (io), c3 (io), c4 (io), c5 (io), c6 (io), c7 (io), c8 (io), c9 (io), c10 (io), c11 (io), c12 (io), c13 (io), c14 (io), c15 (io), c16 (io), c17 (io), c18 (io), c19 (io), c20 (io), c21 (io), c22 (io), c23 (io), c24 (io), c25 (io), c26 (io), c27 (io), c28 (io), c29 (io), c30 (io), c31 (io), c32 (io)
part E pins: d1 (io), d2 (io), d3 (io), d4 (io), d5 (io), d6 (io), d7 (io), d8 (io), d9 (io), d10 (io), d11 (io), d12 (io), d13 (io), d14 (io), d15 (io), d16 (io), d17 (io), d18 (io), d19 (io), d20 (io), d21 (io), d22 (io), d23 (io), d24 (io), d25 (io), d26 (io), d27 (io), d28 (io), d29 (io), d30 (io), d31 (io), d32 (io)
part F pins: MTG1 "Mounting Fixture", MTG2 "Mounting Fixture"
part F text: Mounting; Holes

## Connector 160zabcd Male (5x32)
designator J?
Connector 160zabcd Male (5x32)
part A pins: z1 (io), z2 (io), z3 (io), z4 (io), z5 (io), z6 (io), z7 (io), z8 (io), z9 (io), z10 (io), z11 (io), z12 (io), z13 (io), z14 (io), z15 (io), z16 (io), z17 (io), z18 (io), z19 (io), z20 (io), z21 (io), z22 (io), z23 (io), z24 (io), z25 (io), z26 (io), z27 (io), z28 (io), z29 (io), z30 (io), z31 (io), z32 (io)
part B pins: a1 (io), a2 (io), a3 (io), a4 (io), a5 (io), a6 (io), a7 (io), a8 (io), a9 (io), a10 (io), a11 (io), a12 (io), a13 (io), a14 (io), a15 (io), a16 (io), a17 (io), a18 (io), a19 (io), a20 (io), a21 (io), a22 (io), a23 (io), a24 (io), a25 (io), a26 (io), a27 (io), a28 (io), a29 (io), a30 (io), a31 (io), a32 (io)
part C pins: b1 (io), b2 (io), b3 (io), b4 (io), b5 (io), b6 (io), b7 (io), b8 (io), b9 (io), b10 (io), b11 (io), b12 (io), b13 (io), b14 (io), b15 (io), b16 (io), b17 (io), b18 (io), b19 (io), b20 (io), b21 (io), b22 (io), b23 (io), b24 (io), b25 (io), b26 (io), b27 (io), b28 (io), b29 (io), b30 (io), b31 (io), b32 (io)
part D pins: c1 (io), c2 (io), c3 (io), c4 (io), c5 (io), c6 (io), c7 (io), c8 (io), c9 (io), c10 (io), c11 (io), c12 (io), c13 (io), c14 (io), c15 (io), c16 (io), c17 (io), c18 (io), c19 (io), c20 (io), c21 (io), c22 (io), c23 (io), c24 (io), c25 (io), c26 (io), c27 (io), c28 (io), c29 (io), c30 (io), c31 (io), c32 (io)
part E pins: d1 (io), d2 (io), d3 (io), d4 (io), d5 (io), d6 (io), d7 (io), d8 (io), d9 (io), d10 (io), d11 (io), d12 (io), d13 (io), d14 (io), d15 (io), d16 (io), d17 (io), d18 (io), d19 (io), d20 (io), d21 (io), d22 (io), d23 (io), d24 (io), d25 (io), d26 (io), d27 (io), d28 (io), d29 (io), d30 (io), d31 (io), d32 (io)
part F pins: MTG1 "Mounting Fixture", MTG2 "Mounting Fixture"
part F text: Mounting; Holes

## Connector 170 Male
designator J?
Connector 170 Male
pins: 1 (io), 2 (io), 3 (io), 4 (io), 5 (io), 6 (io), 7 (io), 8 (io), 9 (io), 10 (io), 11 (io), 12 (io), 13 (io), 14 (io), 15 (io), 16 (io), 17 (io), 18 (io), 19 (io), 20 (io), 21 (io), 22 (io), 23 (io), 24 (io), 25 (io), 26 (io), 27 (io), 28 (io), 29 (io), 30 (io), 31 (io), 32 (io), 33 (io), 34 (io), 35 (io), 36 (io), 37 (io), 38 (io), 39 (io), 40 (io), 41 (io), 42 (io), 43 (io), 44 (io), 45 (io), 46 (io), 47 (io), 48 (io), 49 (io), 50 (io), 51 (io), 52 (io), 53 (io), 54 (io), 55 (io), 56 (io), 57 (io), 58 (io), 59 (io), 60 (io), 61 (io), 62 (io), 63 (io), 64 (io), 65 (io), 66 (io), 67 (io), 68 (io), 69 (io), 70 (io), 71 (io), 72 (io), 73 (io), 74 (io), 75 (io), 76 (io), 77 (io), 78 (io), 79 (io), 80 (io), 81 (io), 82 (io), 83 (io), 84 (io), 85 (io), 86 (io), 87 (io), 88 (io), 89 (io), 90 (io), 91 (io), 92 (io), 93 (io), 94 (io), 95 (io), 96 (io), 97 (io), 98 (io), 99 (io), 100 (io), 101 (io), 102 (io), 103 (io), 104 (io), 105 (io), 106 (io), 107 (io), 108 (io), 109 (io), 110 (io), 111 (io), 112 (io), 113 (io), 114 (io), 115 (io), 116 (io), 117 (io), 118 (io), 119 (io), 120 (io), 121 71 (io), 122 72 (io), 123 73 (io), 124 74 (io), 125 75 (io), 126 76 (io), 127 77 (io), 128 78 (io), 129 79 (io), 130 80 (io), 131 81 (io), 132 82 (io), 133 83 (io), 134 84 (io), 135 85 (io), 136 86 (io), 137 87 (io), 138 88 (io), 139 89 (io), 140 90 (io), 141 91 (io), 142 92 (io), 143 93 (io), 144 94 (io), 145 95 (io), 146 96 (io), 147 97 (io), 148 98 (io), 149 99 (io), 150 100 (io), 151 101 (io), 152 102 (io), 153 103 (io), 154 104 (io), 155 105 (io), 156 106 (io), 157 107 (io), 158 108 (io), 159 109 (io), 160 110 (io), 161 111 (io), 162 112 (io), 163 113 (io), 164 114 (io), 165 115 (io), 166 116 (io), 167 117 (io), 168 118 (io), 169 119 (io), 170 120 (io)
1 alternate drawing of the same symbol

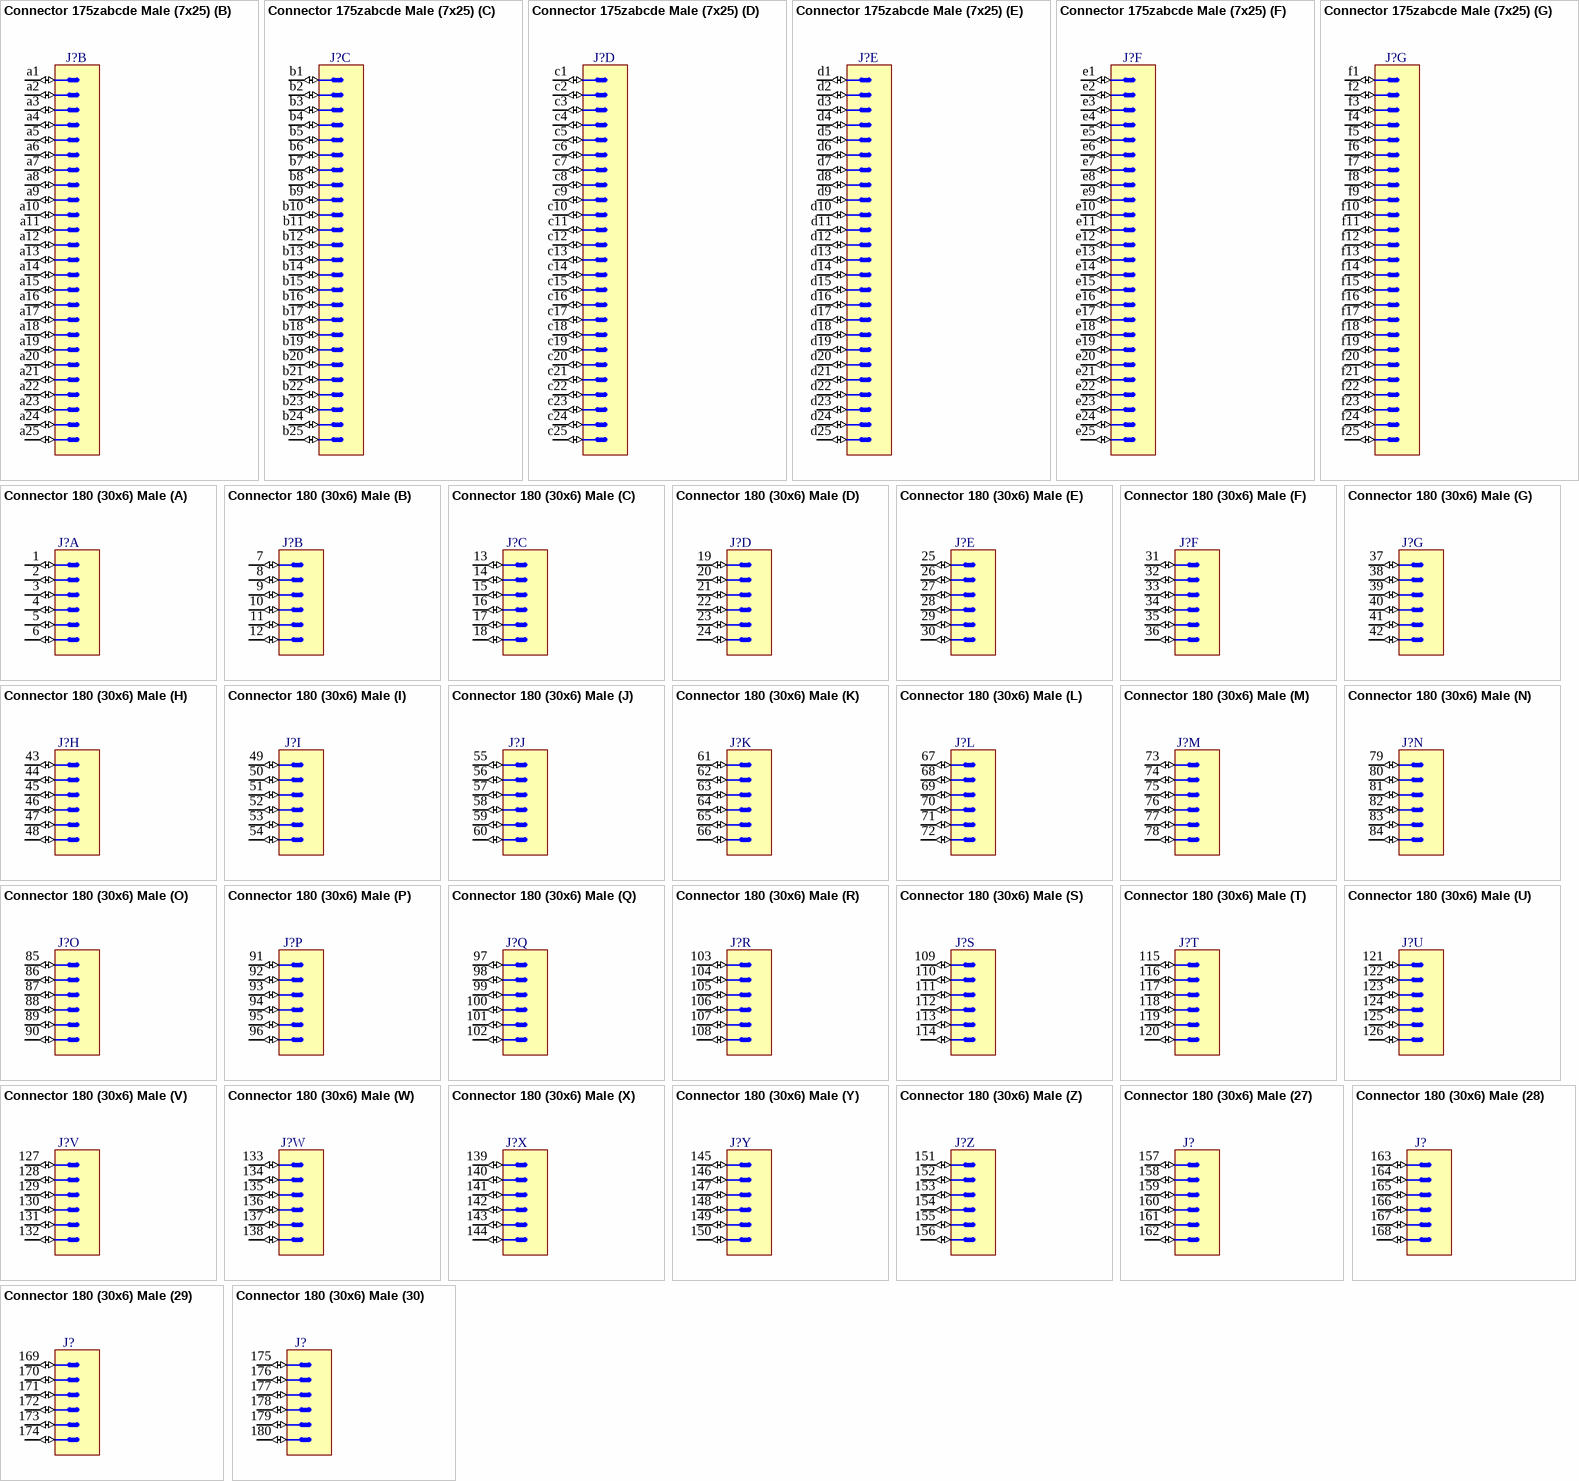
[diagram p25: symbols Connector 175zabcde Male (7x25) to Connector 180 (30x6) Male]

## Connector 175zabcde Male (7x25)
designator J?
Connector 175zabcde Male (7x25)
part A pins: z1 (io), z2 (io), z3 (io), z4 (io), z5 (io), z6 (io), z7 (io), z8 (io), z9 (io), z10 (io), z11 (io), z12 (io), z13 (io), z14 (io), z15 (io), z16 (io), z17 (io), z18 (io), z19 (io), z20 (io), z21 (io), z22 (io), z23 (io), z24 (io), z25 (io)
part B pins: a1 (io), a2 (io), a3 (io), a4 (io), a5 (io), a6 (io), a7 (io), a8 (io), a9 (io), a10 (io), a11 (io), a12 (io), a13 (io), a14 (io), a15 (io), a16 (io), a17 (io), a18 (io), a19 (io), a20 (io), a21 (io), a22 (io), a23 (io), a24 (io), a25 (io)
part C pins: b1 (io), b2 (io), b3 (io), b4 (io), b5 (io), b6 (io), b7 (io), b8 (io), b9 (io), b10 (io), b11 (io), b12 (io), b13 (io), b14 (io), b15 (io), b16 (io), b17 (io), b18 (io), b19 (io), b20 (io), b21 (io), b22 (io), b23 (io), b24 (io), b25 (io)
part D pins: c1 (io), c2 (io), c3 (io), c4 (io), c5 (io), c6 (io), c7 (io), c8 (io), c9 (io), c10 (io), c11 (io), c12 (io), c13 (io), c14 (io), c15 (io), c16 (io), c17 (io), c18 (io), c19 (io), c20 (io), c21 (io), c22 (io), c23 (io), c24 (io), c25 (io)
part E pins: d1 (io), d2 (io), d3 (io), d4 (io), d5 (io), d6 (io), d7 (io), d8 (io), d9 (io), d10 (io), d11 (io), d12 (io), d13 (io), d14 (io), d15 (io), d16 (io), d17 (io), d18 (io), d19 (io), d20 (io), d21 (io), d22 (io), d23 (io), d24 (io), d25 (io)
part F pins: e1 (io), e2 (io), e3 (io), e4 (io), e5 (io), e6 (io), e7 (io), e8 (io), e9 (io), e10 (io), e11 (io), e12 (io), e13 (io), e14 (io), e15 (io), e16 (io), e17 (io), e18 (io), e19 (io), e20 (io), e21 (io), e22 (io), e23 (io), e24 (io), e25 (io)
part G pins: f1 (io), f2 (io), f3 (io), f4 (io), f5 (io), f6 (io), f7 (io), f8 (io), f9 (io), f10 (io), f11 (io), f12 (io), f13 (io), f14 (io), f15 (io), f16 (io), f17 (io), f18 (io), f19 (io), f20 (io), f21 (io), f22 (io), f23 (io), f24 (io), f25 (io)

## Connector 180 (30x6) Male
designator J?
180 Contacts (30 Columns x 6 Rows) Male Connector
part A pins: 1 (io), 2 (io), 3 (io), 4 (io), 5 (io), 6 (io)
part B pins: 7 (io), 8 (io), 9 (io), 10 (io), 11 (io), 12 (io)
part C pins: 13 (io), 14 (io), 15 (io), 16 (io), 17 (io), 18 (io)
part D pins: 19 (io), 20 (io), 21 (io), 22 (io), 23 (io), 24 (io)
part E pins: 25 (io), 26 (io), 27 (io), 28 (io), 29 (io), 30 (io)
part F pins: 31 (io), 32 (io), 33 (io), 34 (io), 35 (io), 36 (io)
part G pins: 37 (io), 38 (io), 39 (io), 40 (io), 41 (io), 42 (io)
part H pins: 43 (io), 44 (io), 45 (io), 46 (io), 47 (io), 48 (io)
part I pins: 49 (io), 50 (io), 51 (io), 52 (io), 53 (io), 54 (io)
part J pins: 55 (io), 56 (io), 57 (io), 58 (io), 59 (io), 60 (io)
part K pins: 61 (io), 62 (io), 63 (io), 64 (io), 65 (io), 66 (io)
part L pins: 67 (io), 68 (io), 69 (io), 70 (io), 71 (io), 72 (io)
part M pins: 73 (io), 74 (io), 75 (io), 76 (io), 77 (io), 78 (io)
part N pins: 79 (io), 80 (io), 81 (io), 82 (io), 83 (io), 84 (io)
part O pins: 85 (io), 86 (io), 87 (io), 88 (io), 89 (io), 90 (io)
part P pins: 91 (io), 92 (io), 93 (io), 94 (io), 95 (io), 96 (io)
part Q pins: 97 (io), 98 (io), 99 (io), 100 (io), 101 (io), 102 (io)
part R pins: 103 (io), 104 (io), 105 (io), 106 (io), 107 (io), 108 (io)
part S pins: 109 (io), 110 (io), 111 (io), 112 (io), 113 (io), 114 (io)
part T pins: 115 (io), 116 (io), 117 (io), 118 (io), 119 (io), 120 (io)
part U pins: 121 (io), 122 (io), 123 (io), 124 (io), 125 (io), 126 (io)
part V pins: 127 (io), 128 (io), 129 (io), 130 (io), 131 (io), 132 (io)
part W pins: 133 (io), 134 (io), 135 (io), 136 (io), 137 (io), 138 (io)
part X pins: 139 (io), 140 (io), 141 (io), 142 (io), 143 (io), 144 (io)
part Y pins: 145 (io), 146 (io), 147 (io), 148 (io), 149 (io), 150 (io)
part Z pins: 151 (io), 152 (io), 153 (io), 154 (io), 155 (io), 156 (io)
part 27 pins: 157 (io), 158 (io), 159 (io), 160 (io), 161 (io), 162 (io)
part 28 pins: 163 (io), 164 (io), 165 (io), 166 (io), 167 (io), 168 (io)
part 29 pins: 169 (io), 170 (io), 171 (io), 172 (io), 173 (io), 174 (io)
part 30 pins: 175 (io), 176 (io), 177 (io), 178 (io), 179 (io), 180 (io)

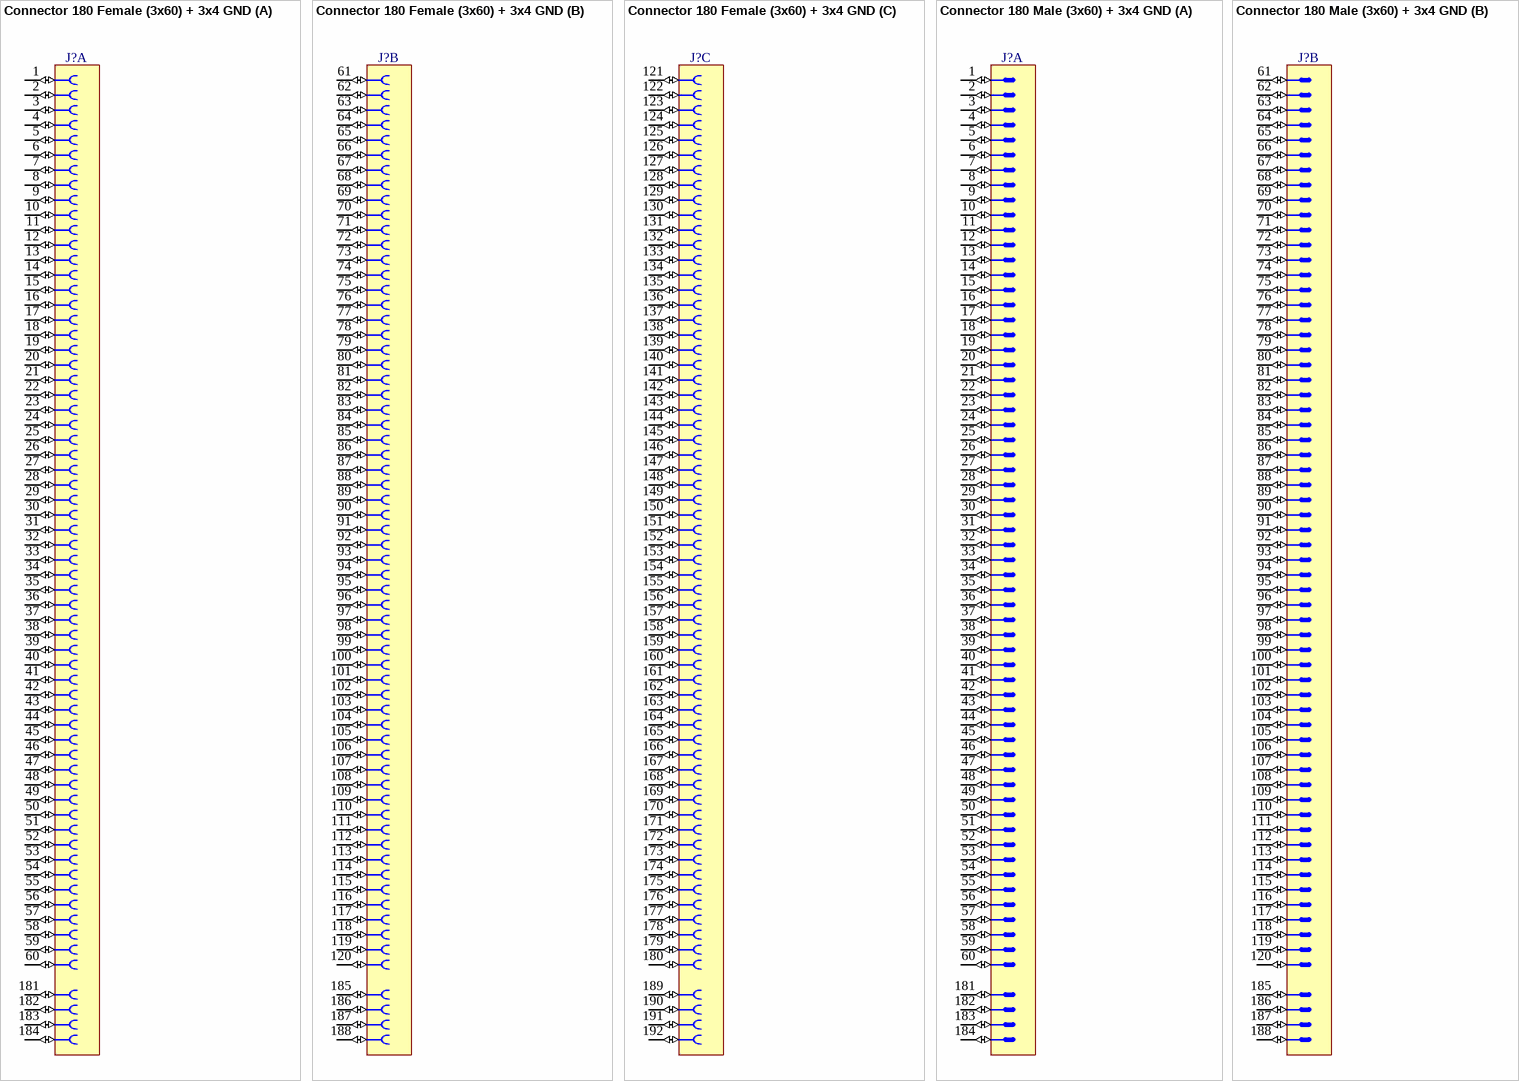
[diagram p26: symbols Connector 180 Female (3x60) + 3x4 GND to Connector 180 Male (3x60) + 3x4 GND]

## Connector 180 Female (3x60) + 3x4 GND
designator J?
Connector 180 Female (3x60) + 3x4 GND
part A pins: 1 (io), 2 (io), 3 (io), 4 (io), 5 (io), 6 (io), 7 (io), 8 (io), 9 (io), 10 (io), 11 (io), 12 (io), 13 (io), 14 (io), 15 (io), 16 (io), 17 (io), 18 (io), 19 (io), 20 (io), 21 (io), 22 (io), 23 (io), 24 (io), 25 (io), 26 (io), 27 (io), 28 (io), 29 (io), 30 (io), 31 (io), 32 (io), 33 (io), 34 (io), 35 (io), 36 (io), 37 (io), 38 (io), 39 (io), 40 (io), 41 (io), 42 (io), 43 (io), 44 (io), 45 (io), 46 (io), 47 (io), 48 (io), 49 (io), 50 (io), 51 (io), 52 (io), 53 (io), 54 (io), 55 (io), 56 (io), 57 (io), 58 (io), 59 (io), 60 (io), 181 (io), 182 (io), 183 (io), 184 (io)
part B pins: 61 (io), 62 (io), 63 (io), 64 (io), 65 (io), 66 (io), 67 (io), 68 (io), 69 (io), 70 (io), 71 (io), 72 (io), 73 (io), 74 (io), 75 (io), 76 (io), 77 (io), 78 (io), 79 (io), 80 (io), 81 (io), 82 (io), 83 (io), 84 (io), 85 (io), 86 (io), 87 (io), 88 (io), 89 (io), 90 (io), 91 (io), 92 (io), 93 (io), 94 (io), 95 (io), 96 (io), 97 (io), 98 (io), 99 (io), 100 (io), 101 (io), 102 (io), 103 (io), 104 (io), 105 (io), 106 (io), 107 (io), 108 (io), 109 (io), 110 (io), 111 (io), 112 (io), 113 (io), 114 (io), 115 (io), 116 (io), 117 (io), 118 (io), 119 (io), 120 (io), 185 (io), 186 (io), 187 (io), 188 (io)
part C pins: 121 (io), 122 (io), 123 (io), 124 (io), 125 (io), 126 (io), 127 (io), 128 (io), 129 (io), 130 (io), 131 (io), 132 (io), 133 (io), 134 (io), 135 (io), 136 (io), 137 (io), 138 (io), 139 (io), 140 (io), 141 (io), 142 (io), 143 (io), 144 (io), 145 (io), 146 (io), 147 (io), 148 (io), 149 (io), 150 (io), 151 (io), 152 (io), 153 (io), 154 (io), 155 (io), 156 (io), 157 (io), 158 (io), 159 (io), 160 (io), 161 (io), 162 (io), 163 (io), 164 (io), 165 (io), 166 (io), 167 (io), 168 (io), 169 (io), 170 (io), 171 (io), 172 (io), 173 (io), 174 (io), 175 (io), 176 (io), 177 (io), 178 (io), 179 (io), 180 (io), 189 (io), 190 (io), 191 (io), 192 (io)

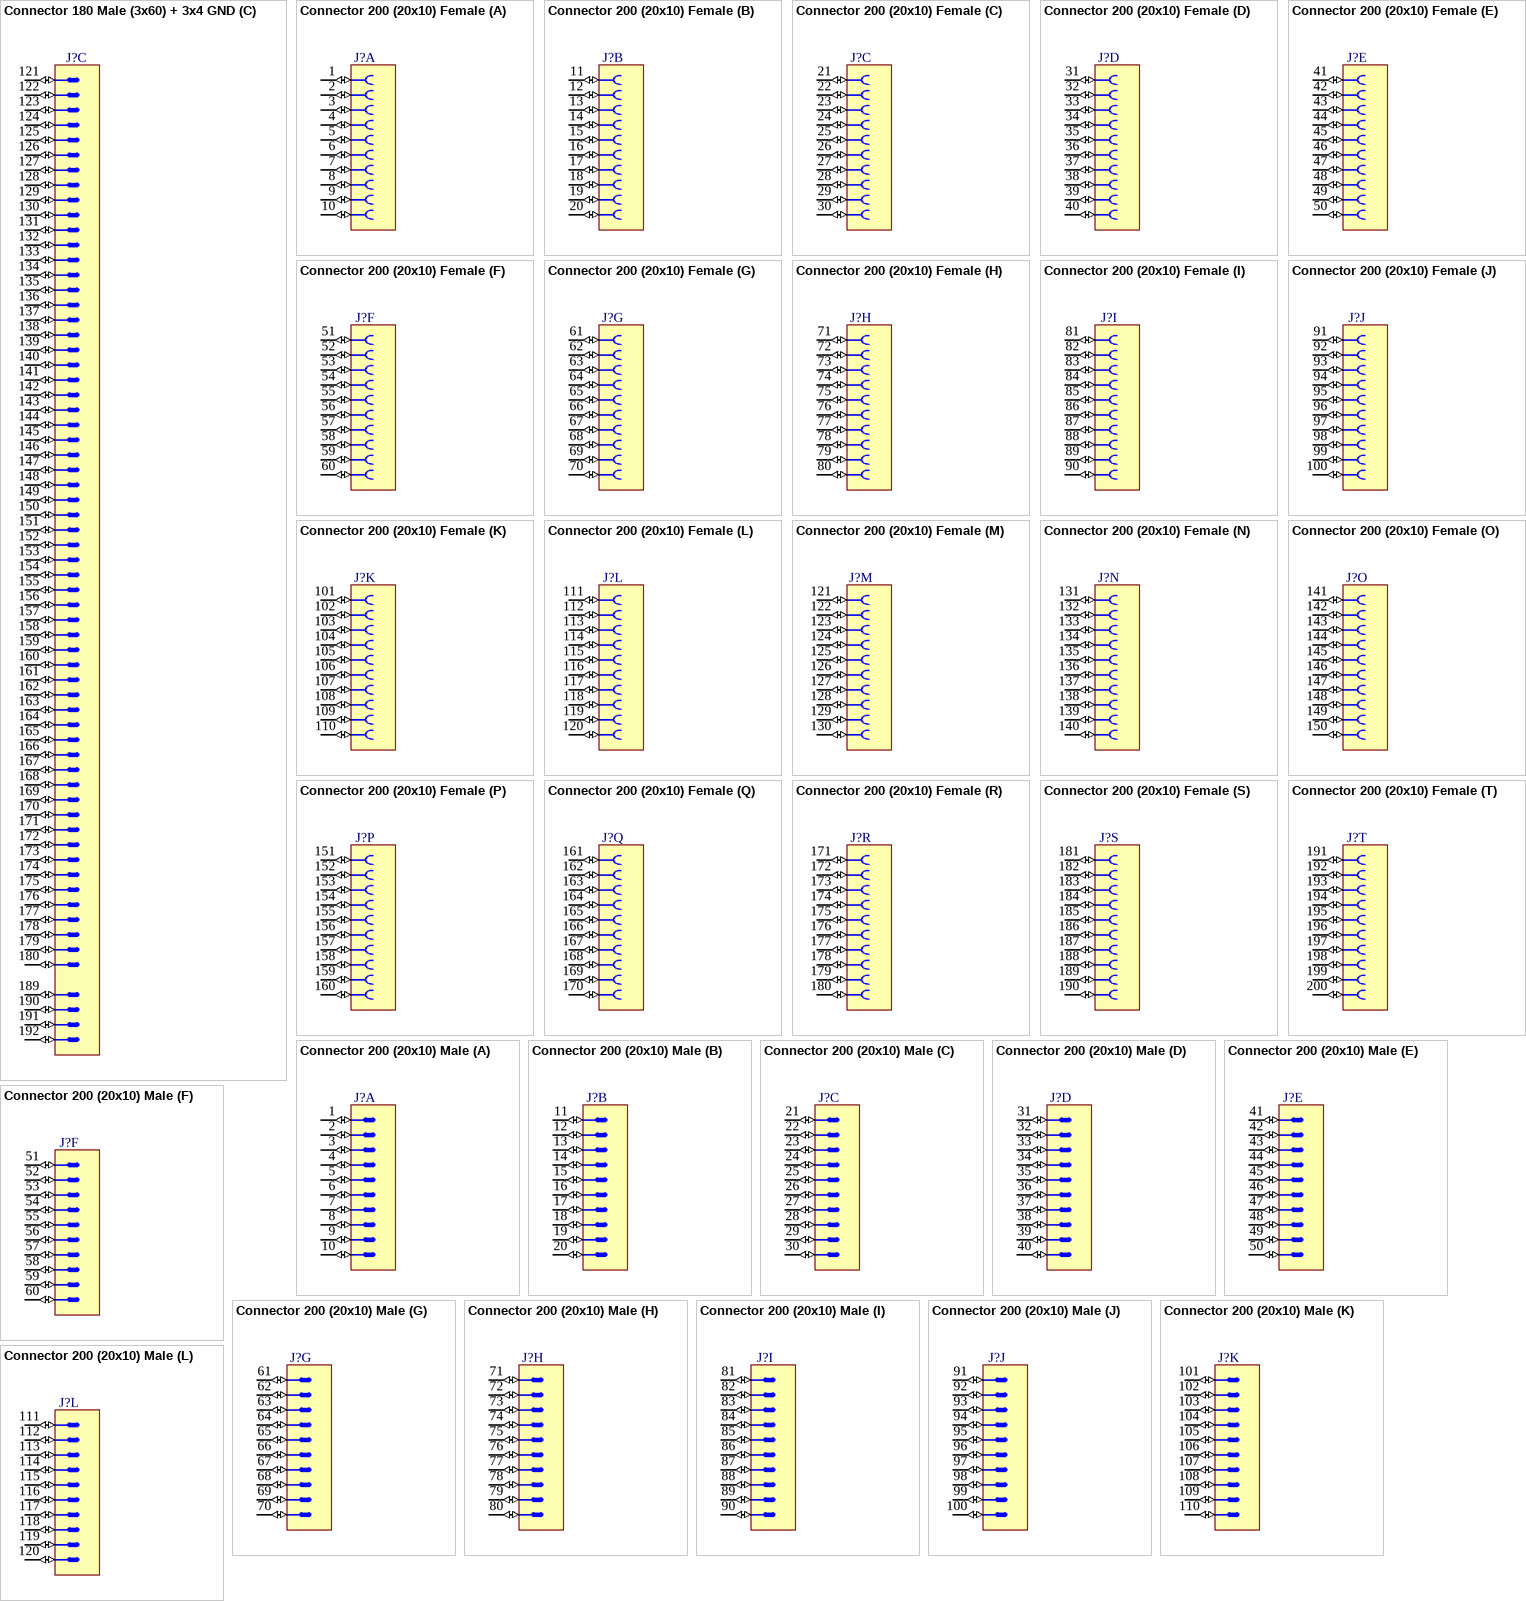
[diagram p27: symbols Connector 180 Male (3x60) + 3x4 GND to Connector 200 (20x10) Male]

## Connector 180 Male (3x60) + 3x4 GND
designator J?
Connector 180 Male (3x60) + 3x4 GND
part A pins: 1 (io), 2 (io), 3 (io), 4 (io), 5 (io), 6 (io), 7 (io), 8 (io), 9 (io), 10 (io), 11 (io), 12 (io), 13 (io), 14 (io), 15 (io), 16 (io), 17 (io), 18 (io), 19 (io), 20 (io), 21 (io), 22 (io), 23 (io), 24 (io), 25 (io), 26 (io), 27 (io), 28 (io), 29 (io), 30 (io), 31 (io), 32 (io), 33 (io), 34 (io), 35 (io), 36 (io), 37 (io), 38 (io), 39 (io), 40 (io), 41 (io), 42 (io), 43 (io), 44 (io), 45 (io), 46 (io), 47 (io), 48 (io), 49 (io), 50 (io), 51 (io), 52 (io), 53 (io), 54 (io), 55 (io), 56 (io), 57 (io), 58 (io), 59 (io), 60 (io), 181 (io), 182 (io), 183 (io), 184 (io)
part B pins: 61 (io), 62 (io), 63 (io), 64 (io), 65 (io), 66 (io), 67 (io), 68 (io), 69 (io), 70 (io), 71 (io), 72 (io), 73 (io), 74 (io), 75 (io), 76 (io), 77 (io), 78 (io), 79 (io), 80 (io), 81 (io), 82 (io), 83 (io), 84 (io), 85 (io), 86 (io), 87 (io), 88 (io), 89 (io), 90 (io), 91 (io), 92 (io), 93 (io), 94 (io), 95 (io), 96 (io), 97 (io), 98 (io), 99 (io), 100 (io), 101 (io), 102 (io), 103 (io), 104 (io), 105 (io), 106 (io), 107 (io), 108 (io), 109 (io), 110 (io), 111 (io), 112 (io), 113 (io), 114 (io), 115 (io), 116 (io), 117 (io), 118 (io), 119 (io), 120 (io), 185 (io), 186 (io), 187 (io), 188 (io)
part C pins: 121 (io), 122 (io), 123 (io), 124 (io), 125 (io), 126 (io), 127 (io), 128 (io), 129 (io), 130 (io), 131 (io), 132 (io), 133 (io), 134 (io), 135 (io), 136 (io), 137 (io), 138 (io), 139 (io), 140 (io), 141 (io), 142 (io), 143 (io), 144 (io), 145 (io), 146 (io), 147 (io), 148 (io), 149 (io), 150 (io), 151 (io), 152 (io), 153 (io), 154 (io), 155 (io), 156 (io), 157 (io), 158 (io), 159 (io), 160 (io), 161 (io), 162 (io), 163 (io), 164 (io), 165 (io), 166 (io), 167 (io), 168 (io), 169 (io), 170 (io), 171 (io), 172 (io), 173 (io), 174 (io), 175 (io), 176 (io), 177 (io), 178 (io), 179 (io), 180 (io), 189 (io), 190 (io), 191 (io), 192 (io)

## Connector 200 (20x10) Female
designator J?
200 Contacts (20 Columns x 10 Rows) Female Connector
part A pins: 1 (io), 2 (io), 3 (io), 4 (io), 5 (io), 6 (io), 7 (io), 8 (io), 9 (io), 10 (io)
part B pins: 11 (io), 12 (io), 13 (io), 14 (io), 15 (io), 16 (io), 17 (io), 18 (io), 19 (io), 20 (io)
part C pins: 21 (io), 22 (io), 23 (io), 24 (io), 25 (io), 26 (io), 27 (io), 28 (io), 29 (io), 30 (io)
part D pins: 31 (io), 32 (io), 33 (io), 34 (io), 35 (io), 36 (io), 37 (io), 38 (io), 39 (io), 40 (io)
part E pins: 41 (io), 42 (io), 43 (io), 44 (io), 45 (io), 46 (io), 47 (io), 48 (io), 49 (io), 50 (io)
part F pins: 51 (io), 52 (io), 53 (io), 54 (io), 55 (io), 56 (io), 57 (io), 58 (io), 59 (io), 60 (io)
part G pins: 61 (io), 62 (io), 63 (io), 64 (io), 65 (io), 66 (io), 67 (io), 68 (io), 69 (io), 70 (io)
part H pins: 71 (io), 72 (io), 73 (io), 74 (io), 75 (io), 76 (io), 77 (io), 78 (io), 79 (io), 80 (io)
part I pins: 81 (io), 82 (io), 83 (io), 84 (io), 85 (io), 86 (io), 87 (io), 88 (io), 89 (io), 90 (io)
part J pins: 91 (io), 92 (io), 93 (io), 94 (io), 95 (io), 96 (io), 97 (io), 98 (io), 99 (io), 100 (io)
part K pins: 101 (io), 102 (io), 103 (io), 104 (io), 105 (io), 106 (io), 107 (io), 108 (io), 109 (io), 110 (io)
part L pins: 111 (io), 112 (io), 113 (io), 114 (io), 115 (io), 116 (io), 117 (io), 118 (io), 119 (io), 120 (io)
part M pins: 121 (io), 122 (io), 123 (io), 124 (io), 125 (io), 126 (io), 127 (io), 128 (io), 129 (io), 130 (io)
part N pins: 131 (io), 132 (io), 133 (io), 134 (io), 135 (io), 136 (io), 137 (io), 138 (io), 139 (io), 140 (io)
part O pins: 141 (io), 142 (io), 143 (io), 144 (io), 145 (io), 146 (io), 147 (io), 148 (io), 149 (io), 150 (io)
part P pins: 151 (io), 152 (io), 153 (io), 154 (io), 155 (io), 156 (io), 157 (io), 158 (io), 159 (io), 160 (io)
part Q pins: 161 (io), 162 (io), 163 (io), 164 (io), 165 (io), 166 (io), 167 (io), 168 (io), 169 (io), 170 (io)
part R pins: 171 (io), 172 (io), 173 (io), 174 (io), 175 (io), 176 (io), 177 (io), 178 (io), 179 (io), 180 (io)
part S pins: 181 (io), 182 (io), 183 (io), 184 (io), 185 (io), 186 (io), 187 (io), 188 (io), 189 (io), 190 (io)
part T pins: 191 (io), 192 (io), 193 (io), 194 (io), 195 (io), 196 (io), 197 (io), 198 (io), 199 (io), 200 (io)

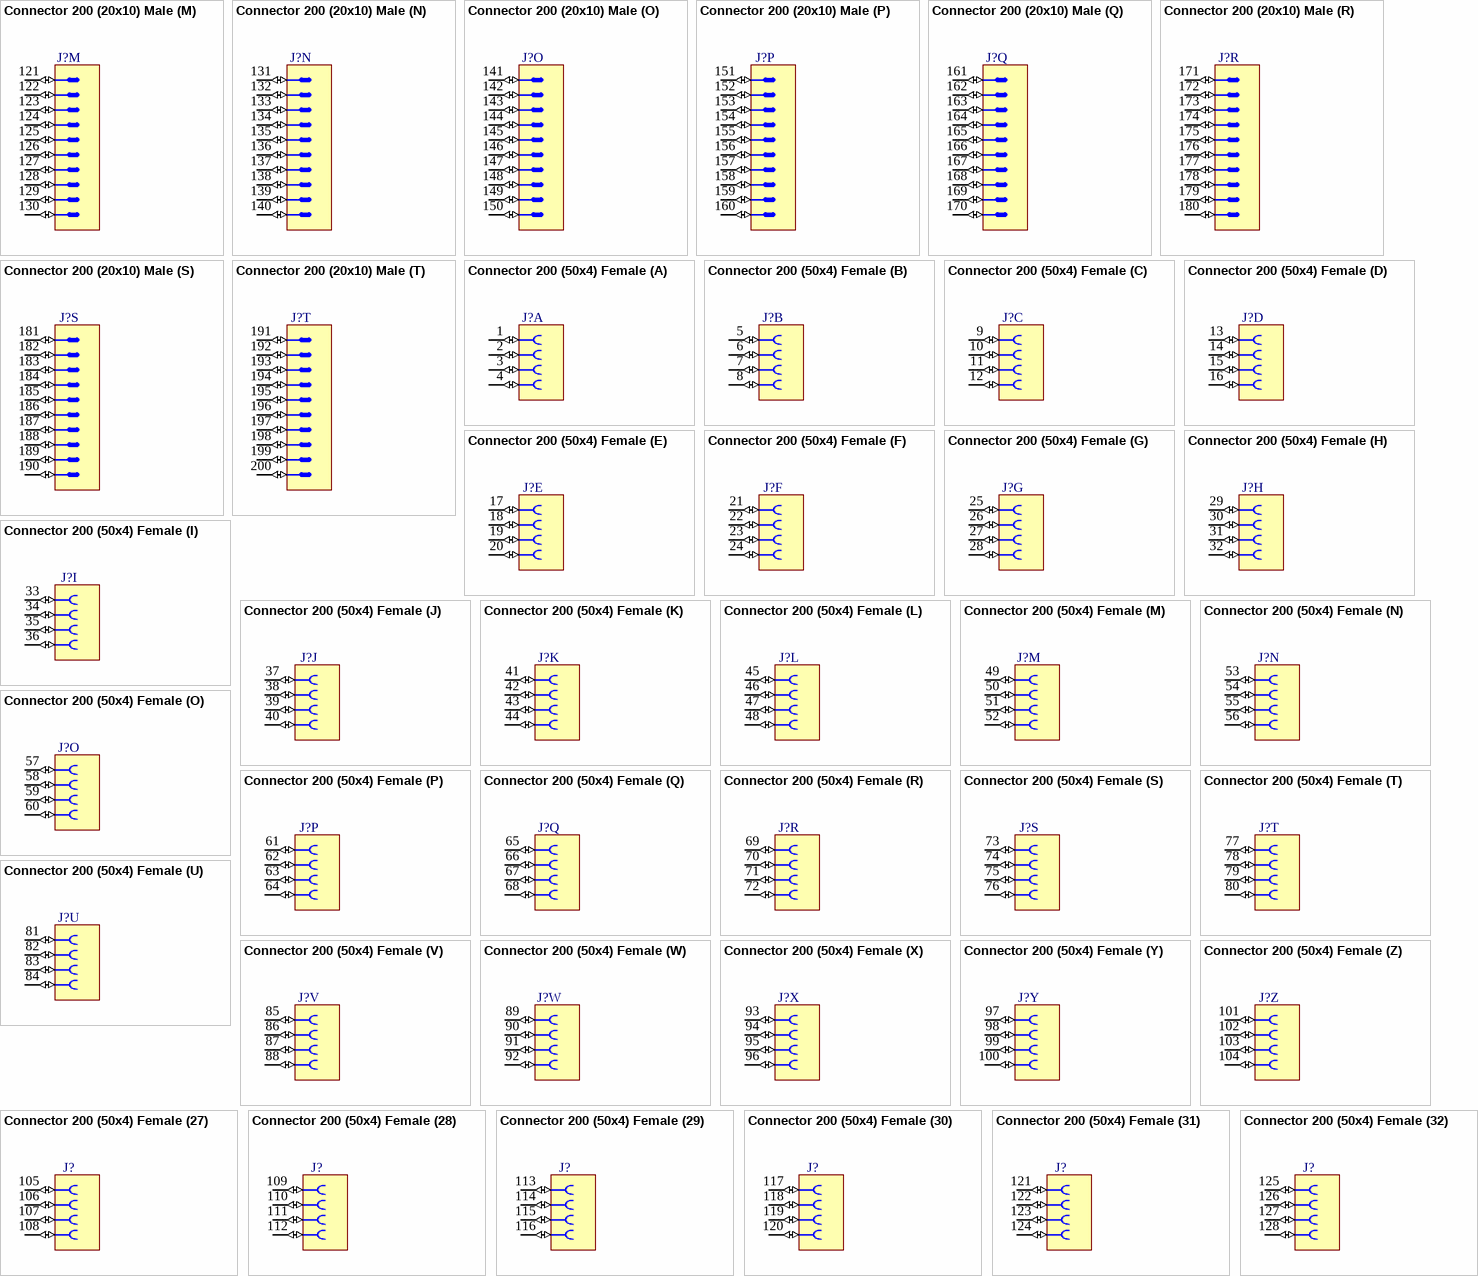
[diagram p28: symbols Connector 200 (20x10) Male to Connector 200 (50x4) Female]

## Connector 200 (20x10) Male
designator J?
200 Contacts (20 Columns x 10 Rows) Male Connector
part A pins: 1 (io), 2 (io), 3 (io), 4 (io), 5 (io), 6 (io), 7 (io), 8 (io), 9 (io), 10 (io)
part B pins: 11 (io), 12 (io), 13 (io), 14 (io), 15 (io), 16 (io), 17 (io), 18 (io), 19 (io), 20 (io)
part C pins: 21 (io), 22 (io), 23 (io), 24 (io), 25 (io), 26 (io), 27 (io), 28 (io), 29 (io), 30 (io)
part D pins: 31 (io), 32 (io), 33 (io), 34 (io), 35 (io), 36 (io), 37 (io), 38 (io), 39 (io), 40 (io)
part E pins: 41 (io), 42 (io), 43 (io), 44 (io), 45 (io), 46 (io), 47 (io), 48 (io), 49 (io), 50 (io)
part F pins: 51 (io), 52 (io), 53 (io), 54 (io), 55 (io), 56 (io), 57 (io), 58 (io), 59 (io), 60 (io)
part G pins: 61 (io), 62 (io), 63 (io), 64 (io), 65 (io), 66 (io), 67 (io), 68 (io), 69 (io), 70 (io)
part H pins: 71 (io), 72 (io), 73 (io), 74 (io), 75 (io), 76 (io), 77 (io), 78 (io), 79 (io), 80 (io)
part I pins: 81 (io), 82 (io), 83 (io), 84 (io), 85 (io), 86 (io), 87 (io), 88 (io), 89 (io), 90 (io)
part J pins: 91 (io), 92 (io), 93 (io), 94 (io), 95 (io), 96 (io), 97 (io), 98 (io), 99 (io), 100 (io)
part K pins: 101 (io), 102 (io), 103 (io), 104 (io), 105 (io), 106 (io), 107 (io), 108 (io), 109 (io), 110 (io)
part L pins: 111 (io), 112 (io), 113 (io), 114 (io), 115 (io), 116 (io), 117 (io), 118 (io), 119 (io), 120 (io)
part M pins: 121 (io), 122 (io), 123 (io), 124 (io), 125 (io), 126 (io), 127 (io), 128 (io), 129 (io), 130 (io)
part N pins: 131 (io), 132 (io), 133 (io), 134 (io), 135 (io), 136 (io), 137 (io), 138 (io), 139 (io), 140 (io)
part O pins: 141 (io), 142 (io), 143 (io), 144 (io), 145 (io), 146 (io), 147 (io), 148 (io), 149 (io), 150 (io)
part P pins: 151 (io), 152 (io), 153 (io), 154 (io), 155 (io), 156 (io), 157 (io), 158 (io), 159 (io), 160 (io)
part Q pins: 161 (io), 162 (io), 163 (io), 164 (io), 165 (io), 166 (io), 167 (io), 168 (io), 169 (io), 170 (io)
part R pins: 171 (io), 172 (io), 173 (io), 174 (io), 175 (io), 176 (io), 177 (io), 178 (io), 179 (io), 180 (io)
part S pins: 181 (io), 182 (io), 183 (io), 184 (io), 185 (io), 186 (io), 187 (io), 188 (io), 189 (io), 190 (io)
part T pins: 191 (io), 192 (io), 193 (io), 194 (io), 195 (io), 196 (io), 197 (io), 198 (io), 199 (io), 200 (io)

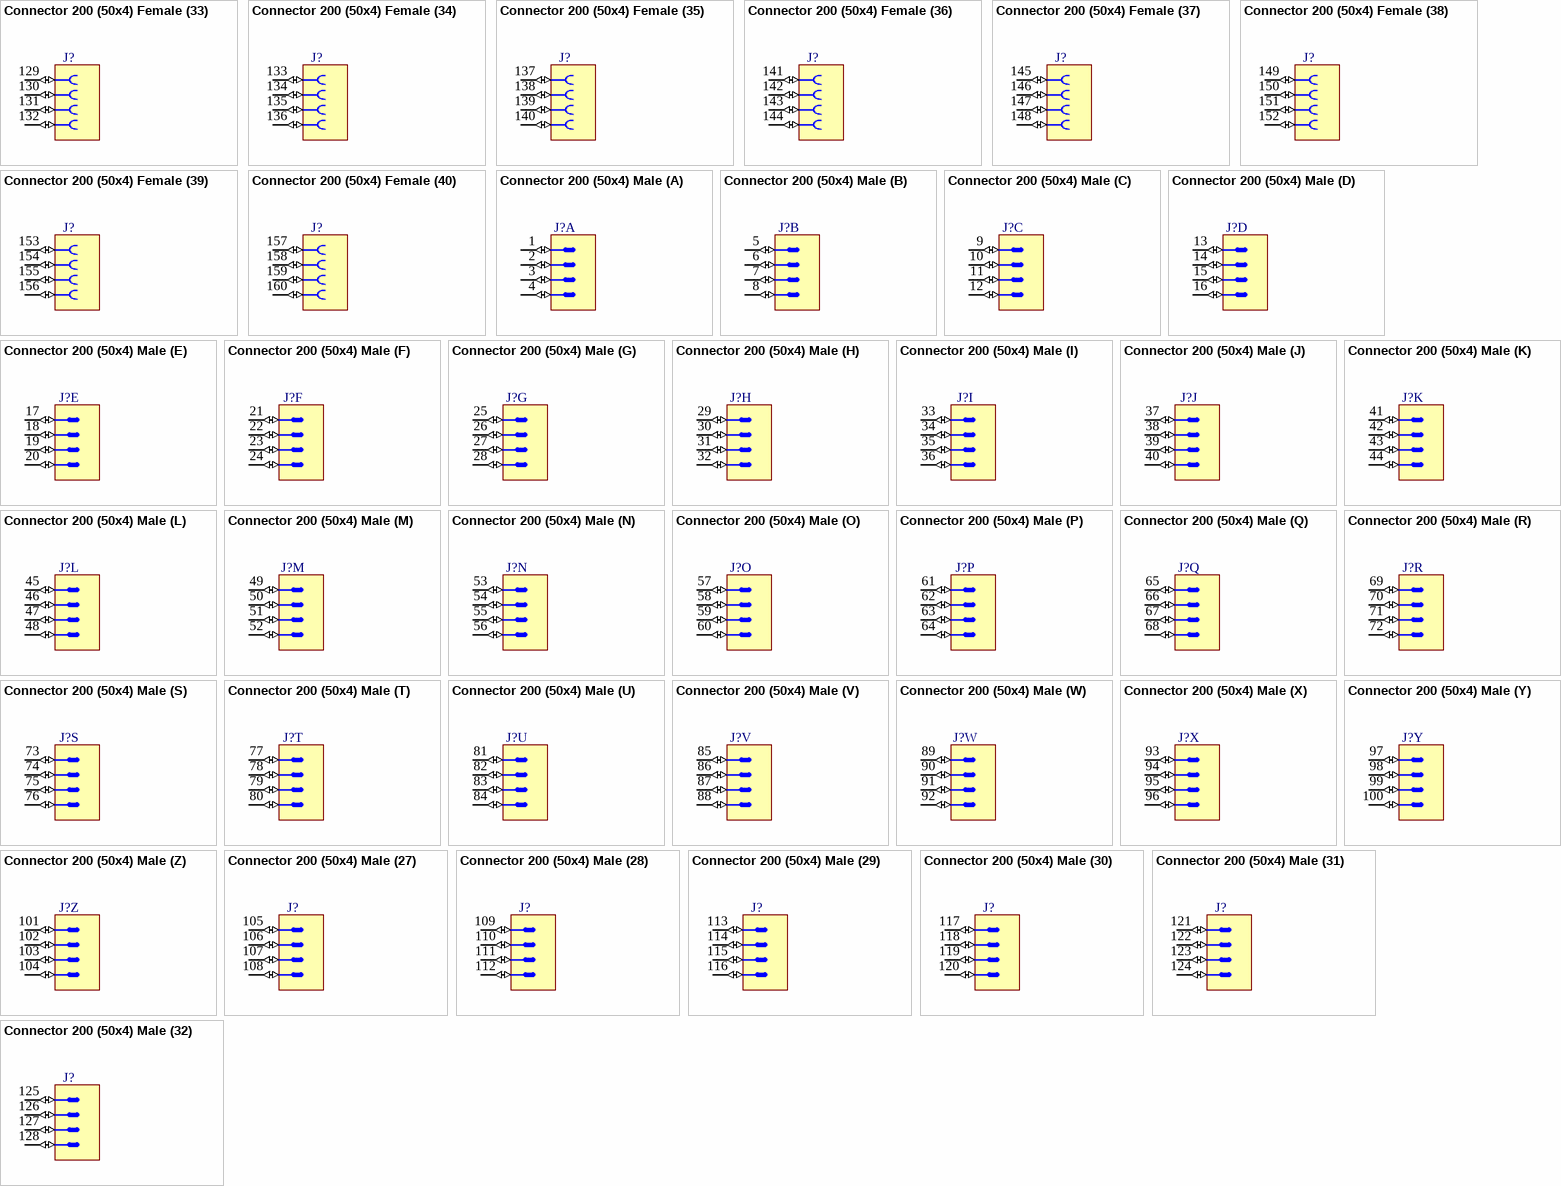
[diagram p29: symbols Connector 200 (50x4) Female to Connector 200 (50x4) Male]

## Connector 200 (50x4) Female
designator J?
200 Contacts (50 Columns x 4 Rows) Female Connector
part A pins: 1 (io), 2 (io), 3 (io), 4 (io)
part B pins: 5 (io), 6 (io), 7 (io), 8 (io)
part C pins: 9 (io), 10 (io), 11 (io), 12 (io)
part D pins: 13 (io), 14 (io), 15 (io), 16 (io)
part E pins: 17 (io), 18 (io), 19 (io), 20 (io)
part F pins: 21 (io), 22 (io), 23 (io), 24 (io)
part G pins: 25 (io), 26 (io), 27 (io), 28 (io)
part H pins: 29 (io), 30 (io), 31 (io), 32 (io)
part I pins: 33 (io), 34 (io), 35 (io), 36 (io)
part J pins: 37 (io), 38 (io), 39 (io), 40 (io)
part K pins: 41 (io), 42 (io), 43 (io), 44 (io)
part L pins: 45 (io), 46 (io), 47 (io), 48 (io)
part M pins: 49 (io), 50 (io), 51 (io), 52 (io)
part N pins: 53 (io), 54 (io), 55 (io), 56 (io)
part O pins: 57 (io), 58 (io), 59 (io), 60 (io)
part P pins: 61 (io), 62 (io), 63 (io), 64 (io)
part Q pins: 65 (io), 66 (io), 67 (io), 68 (io)
part R pins: 69 (io), 70 (io), 71 (io), 72 (io)
part S pins: 73 (io), 74 (io), 75 (io), 76 (io)
part T pins: 77 (io), 78 (io), 79 (io), 80 (io)
part U pins: 81 (io), 82 (io), 83 (io), 84 (io)
part V pins: 85 (io), 86 (io), 87 (io), 88 (io)
part W pins: 89 (io), 90 (io), 91 (io), 92 (io)
part X pins: 93 (io), 94 (io), 95 (io), 96 (io)
part Y pins: 97 (io), 98 (io), 99 (io), 100 (io)
part Z pins: 101 (io), 102 (io), 103 (io), 104 (io)
part 27 pins: 105 (io), 106 (io), 107 (io), 108 (io)
part 28 pins: 109 (io), 110 (io), 111 (io), 112 (io)
part 29 pins: 113 (io), 114 (io), 115 (io), 116 (io)
part 30 pins: 117 (io), 118 (io), 119 (io), 120 (io)
part 31 pins: 121 (io), 122 (io), 123 (io), 124 (io)
part 32 pins: 125 (io), 126 (io), 127 (io), 128 (io)
part 33 pins: 129 (io), 130 (io), 131 (io), 132 (io)
part 34 pins: 133 (io), 134 (io), 135 (io), 136 (io)
part 35 pins: 137 (io), 138 (io), 139 (io), 140 (io)
part 36 pins: 141 (io), 142 (io), 143 (io), 144 (io)
part 37 pins: 145 (io), 146 (io), 147 (io), 148 (io)
part 38 pins: 149 (io), 150 (io), 151 (io), 152 (io)
part 39 pins: 153 (io), 154 (io), 155 (io), 156 (io)
part 40 pins: 157 (io), 158 (io), 159 (io), 160 (io)
part 41 pins: 161 (io), 162 (io), 163 (io), 164 (io)
part 42 pins: 165 (io), 166 (io), 167 (io), 168 (io)
part 43 pins: 169 (io), 170 (io), 171 (io), 172 (io)
part 44 pins: 173 (io), 174 (io), 175 (io), 176 (io)
part 45 pins: 177 (io), 178 (io), 179 (io), 180 (io)
part 46 pins: 181 (io), 182 (io), 183 (io), 184 (io)
part 47 pins: 185 (io), 186 (io), 187 (io), 188 (io)
part 48 pins: 189 (io), 190 (io), 191 (io), 192 (io)
part 49 pins: 193 (io), 194 (io), 195 (io), 196 (io)
part 50 pins: 197 (io), 198 (io), 199 (io), 200 (io)

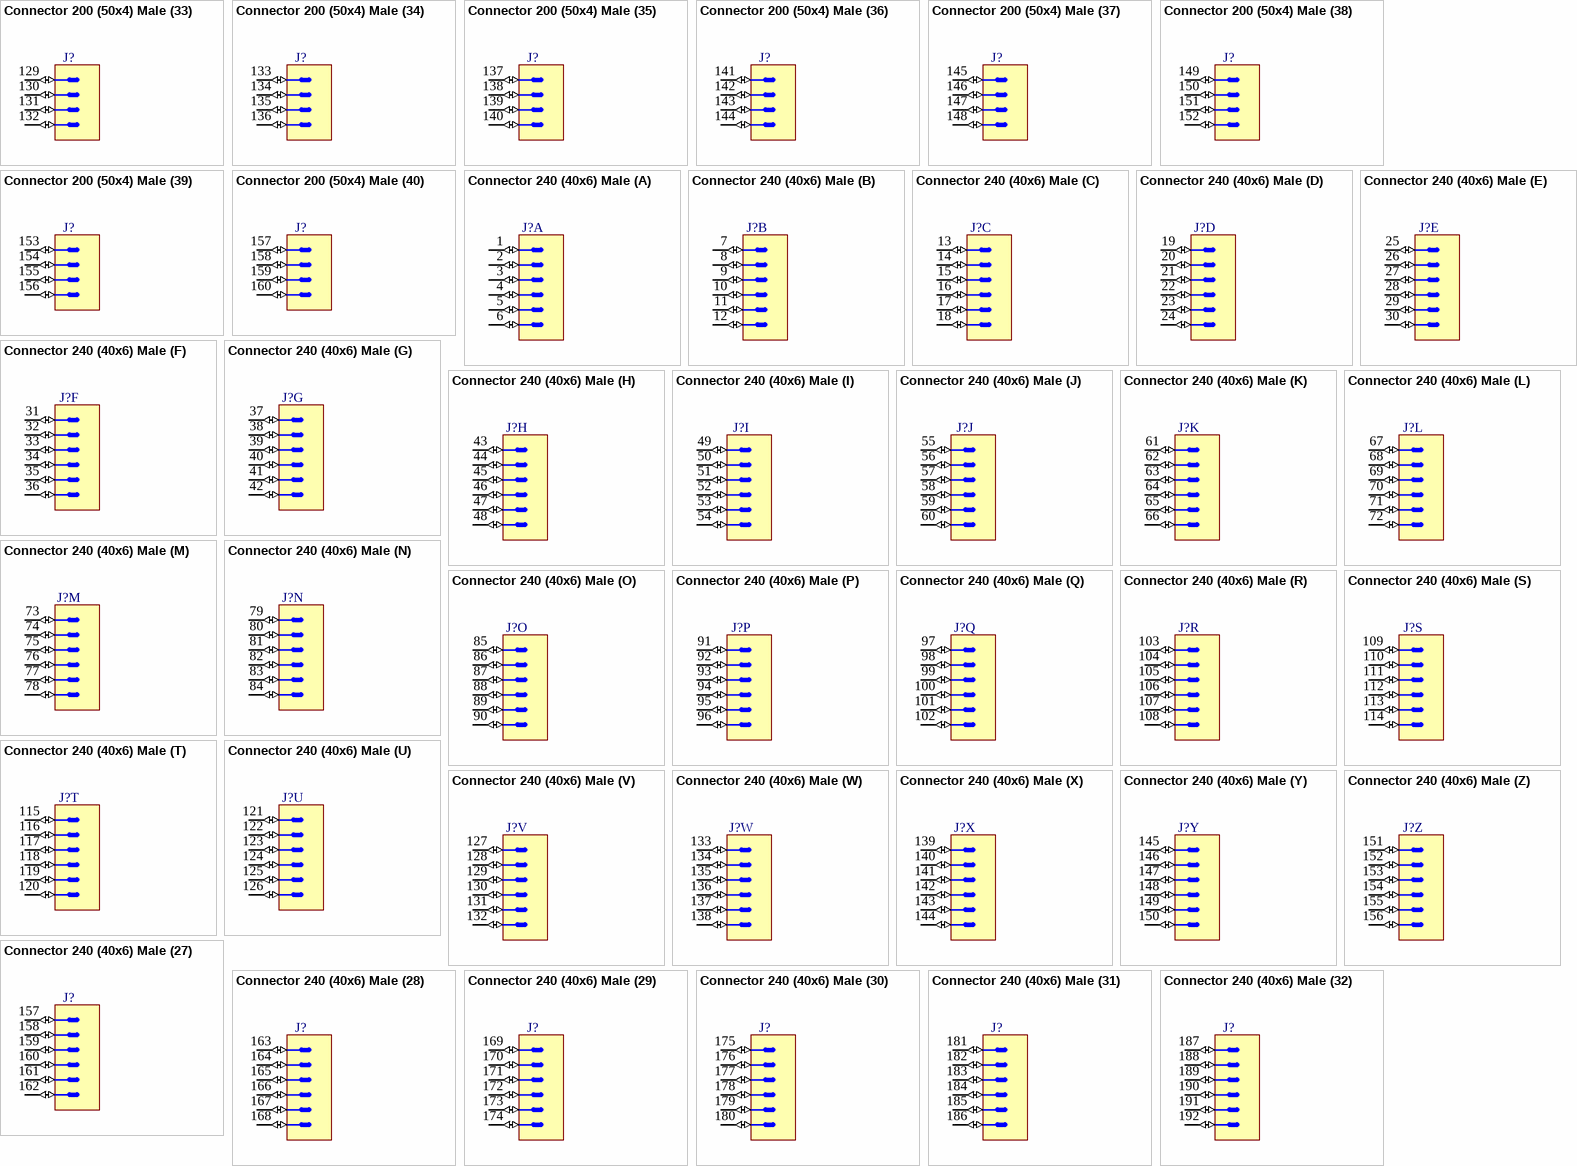
[diagram p30: symbols Connector 200 (50x4) Male to Connector 240 (40x6) Male]

## Connector 200 (50x4) Male
designator J?
200 Contacts (50 Columns x 4 Rows) Male Connector
part A pins: 1 (io), 2 (io), 3 (io), 4 (io)
part B pins: 5 (io), 6 (io), 7 (io), 8 (io)
part C pins: 9 (io), 10 (io), 11 (io), 12 (io)
part D pins: 13 (io), 14 (io), 15 (io), 16 (io)
part E pins: 17 (io), 18 (io), 19 (io), 20 (io)
part F pins: 21 (io), 22 (io), 23 (io), 24 (io)
part G pins: 25 (io), 26 (io), 27 (io), 28 (io)
part H pins: 29 (io), 30 (io), 31 (io), 32 (io)
part I pins: 33 (io), 34 (io), 35 (io), 36 (io)
part J pins: 37 (io), 38 (io), 39 (io), 40 (io)
part K pins: 41 (io), 42 (io), 43 (io), 44 (io)
part L pins: 45 (io), 46 (io), 47 (io), 48 (io)
part M pins: 49 (io), 50 (io), 51 (io), 52 (io)
part N pins: 53 (io), 54 (io), 55 (io), 56 (io)
part O pins: 57 (io), 58 (io), 59 (io), 60 (io)
part P pins: 61 (io), 62 (io), 63 (io), 64 (io)
part Q pins: 65 (io), 66 (io), 67 (io), 68 (io)
part R pins: 69 (io), 70 (io), 71 (io), 72 (io)
part S pins: 73 (io), 74 (io), 75 (io), 76 (io)
part T pins: 77 (io), 78 (io), 79 (io), 80 (io)
part U pins: 81 (io), 82 (io), 83 (io), 84 (io)
part V pins: 85 (io), 86 (io), 87 (io), 88 (io)
part W pins: 89 (io), 90 (io), 91 (io), 92 (io)
part X pins: 93 (io), 94 (io), 95 (io), 96 (io)
part Y pins: 97 (io), 98 (io), 99 (io), 100 (io)
part Z pins: 101 (io), 102 (io), 103 (io), 104 (io)
part 27 pins: 105 (io), 106 (io), 107 (io), 108 (io)
part 28 pins: 109 (io), 110 (io), 111 (io), 112 (io)
part 29 pins: 113 (io), 114 (io), 115 (io), 116 (io)
part 30 pins: 117 (io), 118 (io), 119 (io), 120 (io)
part 31 pins: 121 (io), 122 (io), 123 (io), 124 (io)
part 32 pins: 125 (io), 126 (io), 127 (io), 128 (io)
part 33 pins: 129 (io), 130 (io), 131 (io), 132 (io)
part 34 pins: 133 (io), 134 (io), 135 (io), 136 (io)
part 35 pins: 137 (io), 138 (io), 139 (io), 140 (io)
part 36 pins: 141 (io), 142 (io), 143 (io), 144 (io)
part 37 pins: 145 (io), 146 (io), 147 (io), 148 (io)
part 38 pins: 149 (io), 150 (io), 151 (io), 152 (io)
part 39 pins: 153 (io), 154 (io), 155 (io), 156 (io)
part 40 pins: 157 (io), 158 (io), 159 (io), 160 (io)
part 41 pins: 161 (io), 162 (io), 163 (io), 164 (io)
part 42 pins: 165 (io), 166 (io), 167 (io), 168 (io)
part 43 pins: 169 (io), 170 (io), 171 (io), 172 (io)
part 44 pins: 173 (io), 174 (io), 175 (io), 176 (io)
part 45 pins: 177 (io), 178 (io), 179 (io), 180 (io)
part 46 pins: 181 (io), 182 (io), 183 (io), 184 (io)
part 47 pins: 185 (io), 186 (io), 187 (io), 188 (io)
part 48 pins: 189 (io), 190 (io), 191 (io), 192 (io)
part 49 pins: 193 (io), 194 (io), 195 (io), 196 (io)
part 50 pins: 197 (io), 198 (io), 199 (io), 200 (io)

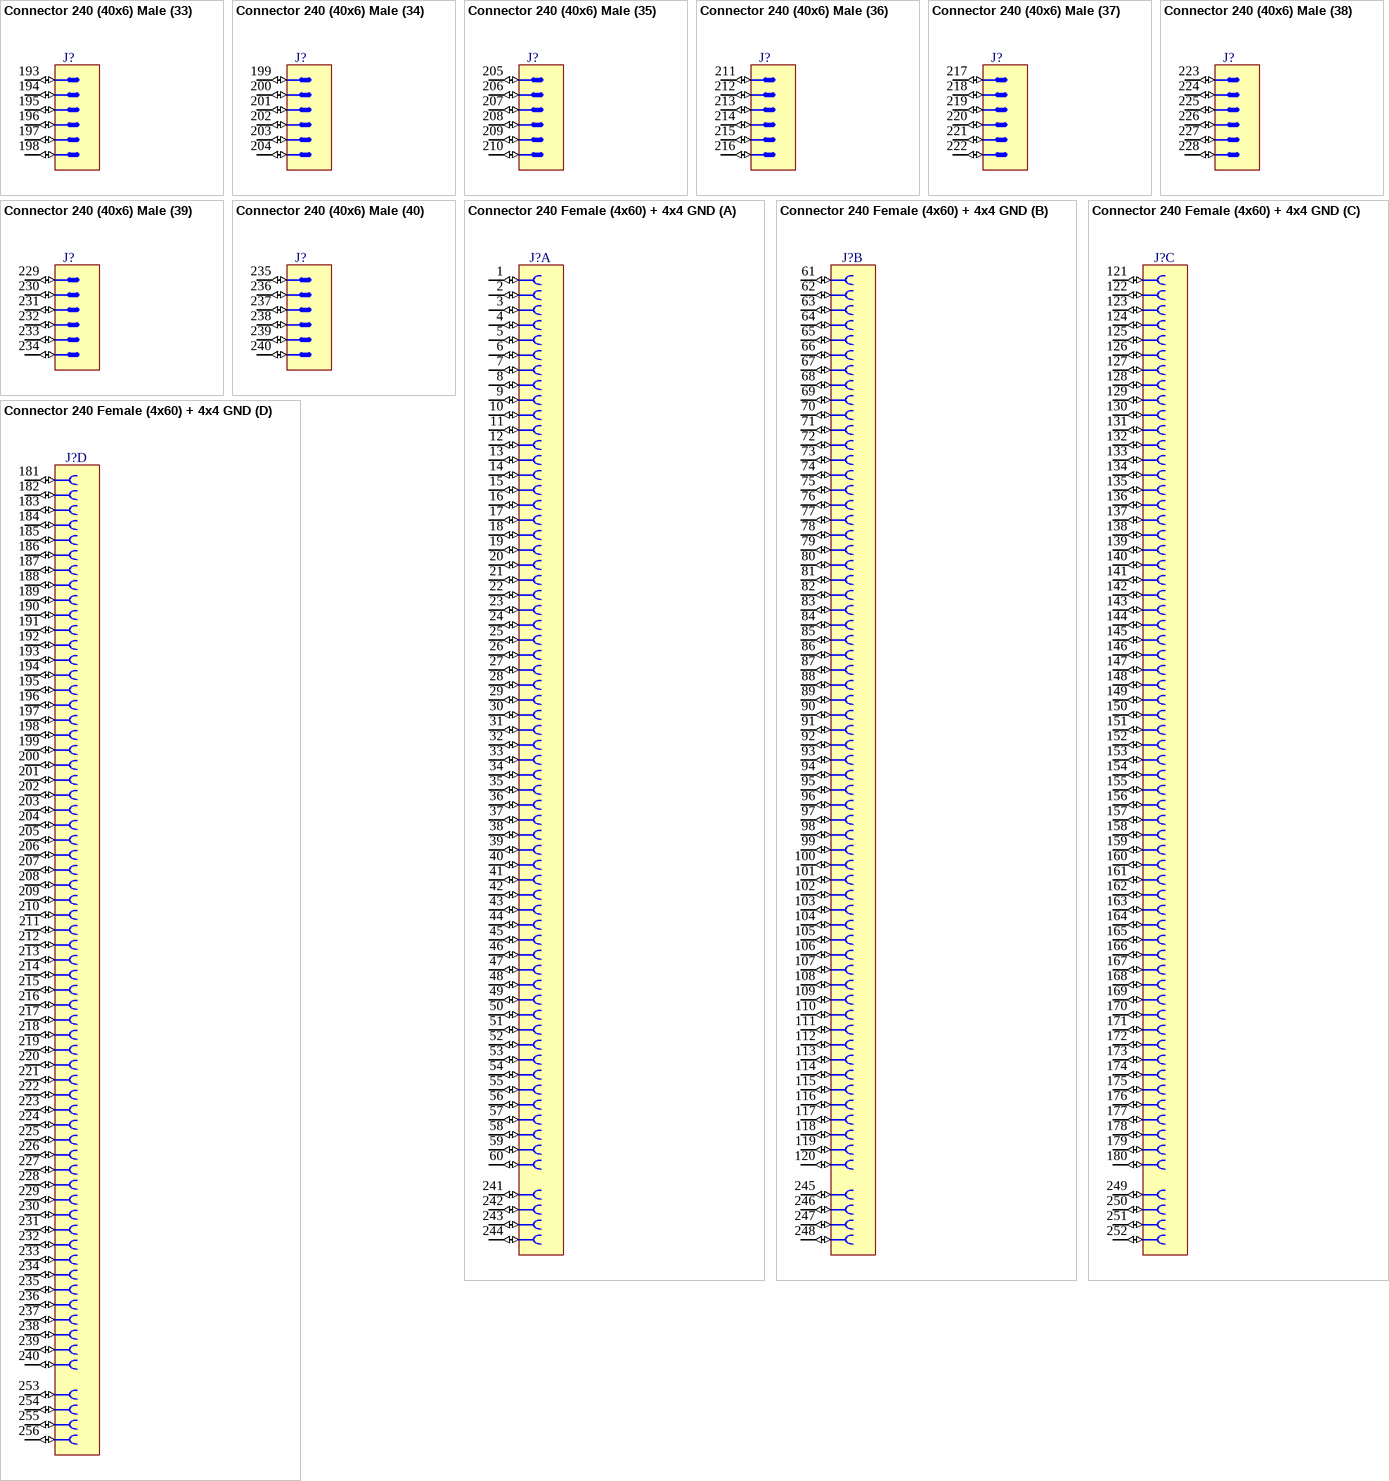
[diagram p31: symbols Connector 240 (40x6) Male to Connector 240 Female (4x60) + 4x4 GND]

## Connector 240 (40x6) Male
designator J?
240 Contacts (40 Columns x 6 Rows) Male Connector
part A pins: 1 (io), 2 (io), 3 (io), 4 (io), 5 (io), 6 (io)
part B pins: 7 (io), 8 (io), 9 (io), 10 (io), 11 (io), 12 (io)
part C pins: 13 (io), 14 (io), 15 (io), 16 (io), 17 (io), 18 (io)
part D pins: 19 (io), 20 (io), 21 (io), 22 (io), 23 (io), 24 (io)
part E pins: 25 (io), 26 (io), 27 (io), 28 (io), 29 (io), 30 (io)
part F pins: 31 (io), 32 (io), 33 (io), 34 (io), 35 (io), 36 (io)
part G pins: 37 (io), 38 (io), 39 (io), 40 (io), 41 (io), 42 (io)
part H pins: 43 (io), 44 (io), 45 (io), 46 (io), 47 (io), 48 (io)
part I pins: 49 (io), 50 (io), 51 (io), 52 (io), 53 (io), 54 (io)
part J pins: 55 (io), 56 (io), 57 (io), 58 (io), 59 (io), 60 (io)
part K pins: 61 (io), 62 (io), 63 (io), 64 (io), 65 (io), 66 (io)
part L pins: 67 (io), 68 (io), 69 (io), 70 (io), 71 (io), 72 (io)
part M pins: 73 (io), 74 (io), 75 (io), 76 (io), 77 (io), 78 (io)
part N pins: 79 (io), 80 (io), 81 (io), 82 (io), 83 (io), 84 (io)
part O pins: 85 (io), 86 (io), 87 (io), 88 (io), 89 (io), 90 (io)
part P pins: 91 (io), 92 (io), 93 (io), 94 (io), 95 (io), 96 (io)
part Q pins: 97 (io), 98 (io), 99 (io), 100 (io), 101 (io), 102 (io)
part R pins: 103 (io), 104 (io), 105 (io), 106 (io), 107 (io), 108 (io)
part S pins: 109 (io), 110 (io), 111 (io), 112 (io), 113 (io), 114 (io)
part T pins: 115 (io), 116 (io), 117 (io), 118 (io), 119 (io), 120 (io)
part U pins: 121 (io), 122 (io), 123 (io), 124 (io), 125 (io), 126 (io)
part V pins: 127 (io), 128 (io), 129 (io), 130 (io), 131 (io), 132 (io)
part W pins: 133 (io), 134 (io), 135 (io), 136 (io), 137 (io), 138 (io)
part X pins: 139 (io), 140 (io), 141 (io), 142 (io), 143 (io), 144 (io)
part Y pins: 145 (io), 146 (io), 147 (io), 148 (io), 149 (io), 150 (io)
part Z pins: 151 (io), 152 (io), 153 (io), 154 (io), 155 (io), 156 (io)
part 27 pins: 157 (io), 158 (io), 159 (io), 160 (io), 161 (io), 162 (io)
part 28 pins: 163 (io), 164 (io), 165 (io), 166 (io), 167 (io), 168 (io)
part 29 pins: 169 (io), 170 (io), 171 (io), 172 (io), 173 (io), 174 (io)
part 30 pins: 175 (io), 176 (io), 177 (io), 178 (io), 179 (io), 180 (io)
part 31 pins: 181 (io), 182 (io), 183 (io), 184 (io), 185 (io), 186 (io)
part 32 pins: 187 (io), 188 (io), 189 (io), 190 (io), 191 (io), 192 (io)
part 33 pins: 193 (io), 194 (io), 195 (io), 196 (io), 197 (io), 198 (io)
part 34 pins: 199 (io), 200 (io), 201 (io), 202 (io), 203 (io), 204 (io)
part 35 pins: 205 (io), 206 (io), 207 (io), 208 (io), 209 (io), 210 (io)
part 36 pins: 211 (io), 212 (io), 213 (io), 214 (io), 215 (io), 216 (io)
part 37 pins: 217 (io), 218 (io), 219 (io), 220 (io), 221 (io), 222 (io)
part 38 pins: 223 (io), 224 (io), 225 (io), 226 (io), 227 (io), 228 (io)
part 39 pins: 229 (io), 230 (io), 231 (io), 232 (io), 233 (io), 234 (io)
part 40 pins: 235 (io), 236 (io), 237 (io), 238 (io), 239 (io), 240 (io)

## Connector 240 Female (4x60) + 4x4 GND
designator J?
Connector 240 Female (4x60) + 4x4 GND
part A pins: 1 (io), 2 (io), 3 (io), 4 (io), 5 (io), 6 (io), 7 (io), 8 (io), 9 (io), 10 (io), 11 (io), 12 (io), 13 (io), 14 (io), 15 (io), 16 (io), 17 (io), 18 (io), 19 (io), 20 (io), 21 (io), 22 (io), 23 (io), 24 (io), 25 (io), 26 (io), 27 (io), 28 (io), 29 (io), 30 (io), 31 (io), 32 (io), 33 (io), 34 (io), 35 (io), 36 (io), 37 (io), 38 (io), 39 (io), 40 (io), 41 (io), 42 (io), 43 (io), 44 (io), 45 (io), 46 (io), 47 (io), 48 (io), 49 (io), 50 (io), 51 (io), 52 (io), 53 (io), 54 (io), 55 (io), 56 (io), 57 (io), 58 (io), 59 (io), 60 (io), 241 (io), 242 (io), 243 (io), 244 (io)
part B pins: 61 (io), 62 (io), 63 (io), 64 (io), 65 (io), 66 (io), 67 (io), 68 (io), 69 (io), 70 (io), 71 (io), 72 (io), 73 (io), 74 (io), 75 (io), 76 (io), 77 (io), 78 (io), 79 (io), 80 (io), 81 (io), 82 (io), 83 (io), 84 (io), 85 (io), 86 (io), 87 (io), 88 (io), 89 (io), 90 (io), 91 (io), 92 (io), 93 (io), 94 (io), 95 (io), 96 (io), 97 (io), 98 (io), 99 (io), 100 (io), 101 (io), 102 (io), 103 (io), 104 (io), 105 (io), 106 (io), 107 (io), 108 (io), 109 (io), 110 (io), 111 (io), 112 (io), 113 (io), 114 (io), 115 (io), 116 (io), 117 (io), 118 (io), 119 (io), 120 (io), 245 (io), 246 (io), 247 (io), 248 (io)
part C pins: 121 (io), 122 (io), 123 (io), 124 (io), 125 (io), 126 (io), 127 (io), 128 (io), 129 (io), 130 (io), 131 (io), 132 (io), 133 (io), 134 (io), 135 (io), 136 (io), 137 (io), 138 (io), 139 (io), 140 (io), 141 (io), 142 (io), 143 (io), 144 (io), 145 (io), 146 (io), 147 (io), 148 (io), 149 (io), 150 (io), 151 (io), 152 (io), 153 (io), 154 (io), 155 (io), 156 (io), 157 (io), 158 (io), 159 (io), 160 (io), 161 (io), 162 (io), 163 (io), 164 (io), 165 (io), 166 (io), 167 (io), 168 (io), 169 (io), 170 (io), 171 (io), 172 (io), 173 (io), 174 (io), 175 (io), 176 (io), 177 (io), 178 (io), 179 (io), 180 (io), 249 (io), 250 (io), 251 (io), 252 (io)
part D pins: 181 (io), 182 (io), 183 (io), 184 (io), 185 (io), 186 (io), 187 (io), 188 (io), 189 (io), 190 (io), 191 (io), 192 (io), 193 (io), 194 (io), 195 (io), 196 (io), 197 (io), 198 (io), 199 (io), 200 (io), 201 (io), 202 (io), 203 (io), 204 (io), 205 (io), 206 (io), 207 (io), 208 (io), 209 (io), 210 (io), 211 (io), 212 (io), 213 (io), 214 (io), 215 (io), 216 (io), 217 (io), 218 (io), 219 (io), 220 (io), 221 (io), 222 (io), 223 (io), 224 (io), 225 (io), 226 (io), 227 (io), 228 (io), 229 (io), 230 (io), 231 (io), 232 (io), 233 (io), 234 (io), 235 (io), 236 (io), 237 (io), 238 (io), 239 (io), 240 (io), 253 (io), 254 (io), 255 (io), 256 (io)

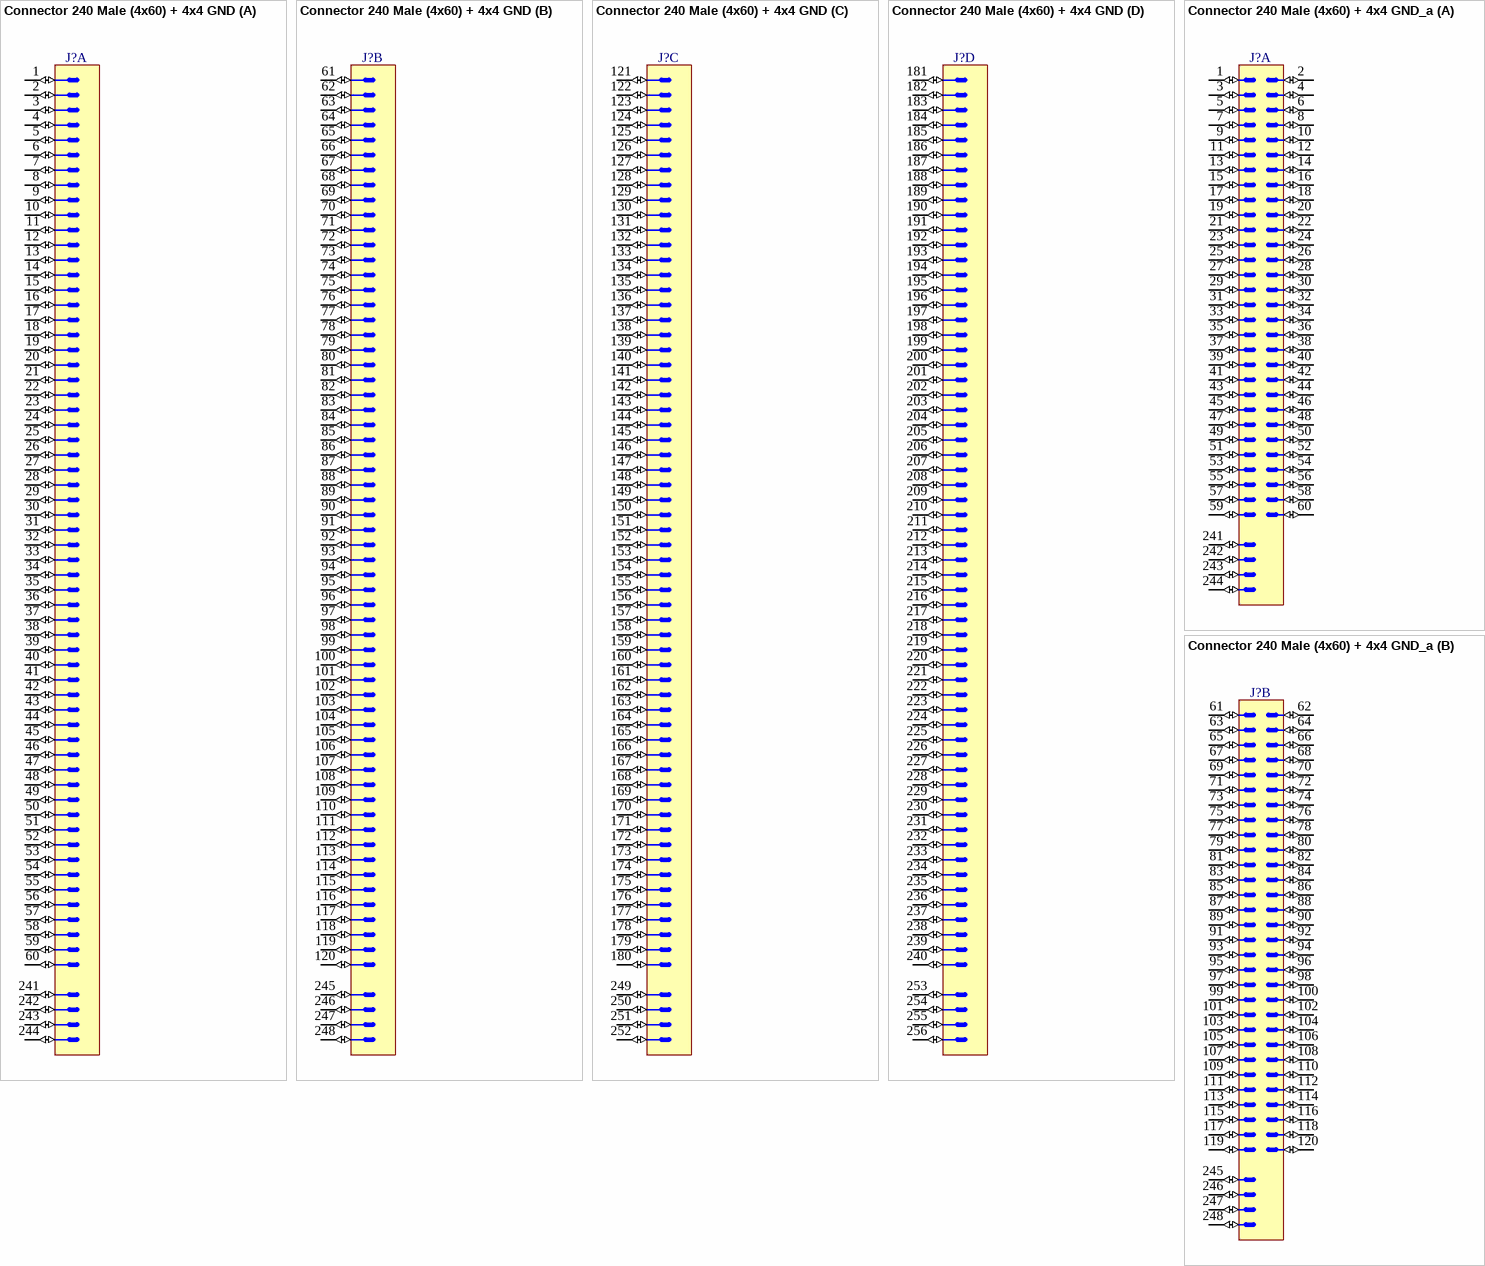
[diagram p32: symbols Connector 240 Male (4x60) + 4x4 GND to Connector 240 Male (4x60) + 4x4 GND_a]